# Altium schematic symbol library ICs.SchLib: 214 symbols (part 2 of 2)
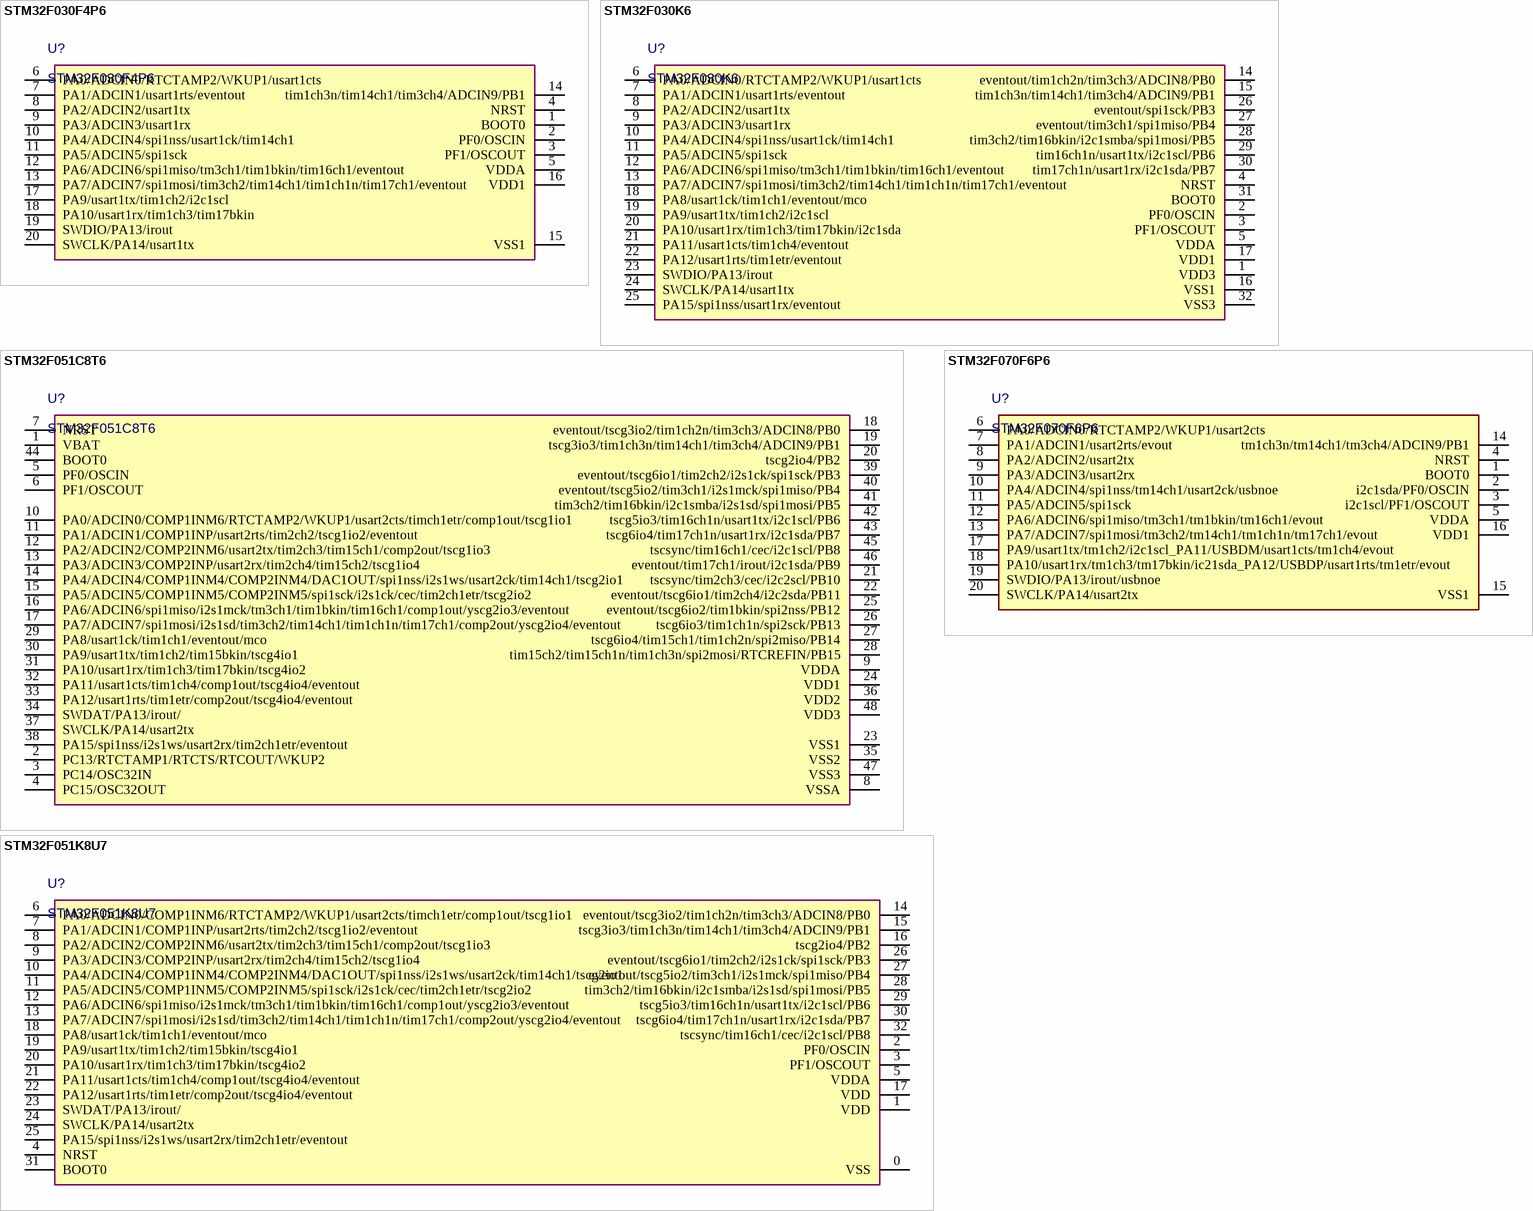
[diagram p17: symbols STM32F030F4P6 to STM32F070F6P6]

## STM32F070F6P6
designator U?
Value: STM32F070F6P6
pins: 1 BOOT0, 2 i2c1sda/PF0/OSCIN, 3 i2c1scl/PF1/OSCOUT, 4 NRST, 5 VDDA, 6 PA0/ADCIN0/RTCTAMP2/WKUP1/usart2cts, 7 PA1/ADCIN1/usart2rts/evout, 8 PA2/ADCIN2/usart2tx, 9 PA3/ADCIN3/usart2rx, 10 PA4/ADCIN4/spi1nss/tm14ch1/usart2ck/usbnoe, 11 PA5/ADCIN5/spi1sck, 12 PA6/ADCIN6/spi1miso/tm3ch1/tm1bkin/tm16ch1/evout, 13 PA7/ADCIN7/spi1mosi/tm3ch2/tm14ch1/tm1ch1n/tm17ch1/evout, 14 tm1ch3n/tm14ch1/tm3ch4/ADCIN9/PB1, 15 VSS1, 16 VDD1, 17 PA9/usart1tx/tm1ch2/i2c1scl_PA11/USBDM/usart1cts/tm1ch4/evout, 18 PA10/usart1rx/tm1ch3/tm17bkin/ic21sda_PA12/USBDP/usart1rts/tm1etr/evout, 19 SWDIO/PA13/irout/usbnoe, 20 SWCLK/PA14/usart2tx

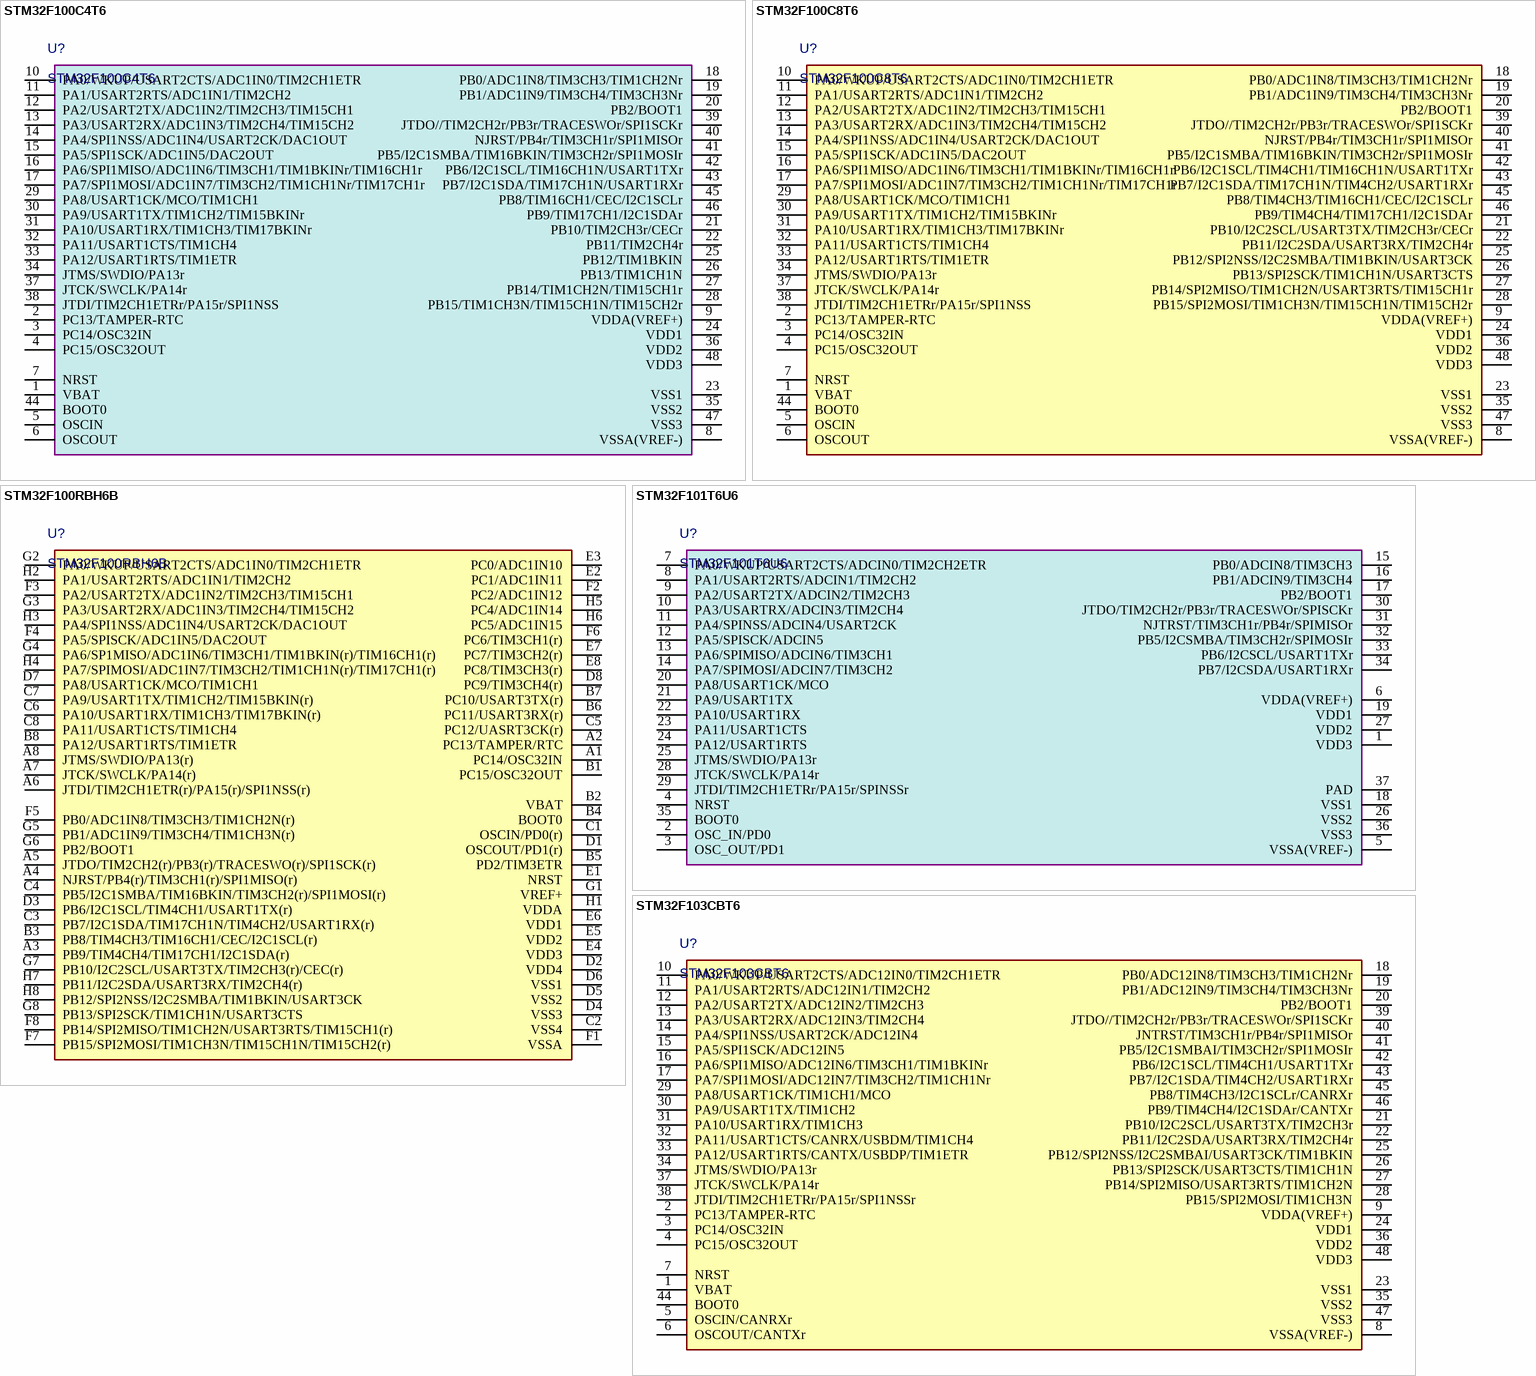
[diagram p10: symbols STM32F100C4T6 to STM32F103CBT6]

## STM32F100C4T6
designator U?
Value: STM32F100C4T6
pins: 1 VBAT, 2 PC13/TAMPER-RTC, 3 PC14/OSC32IN, 4 PC15/OSC32OUT, 5 OSCIN, 6 OSCOUT, 7 NRST, 8 VSSA(VREF-), 9 VDDA(VREF+), 10 PA0/WKUP/USART2CTS/ADC1IN0/TIM2CH1ETR, 11 PA1/USART2RTS/ADC1IN1/TIM2CH2, 12 PA2/USART2TX/ADC1IN2/TIM2CH3/TIM15CH1, 13 PA3/USART2RX/ADC1IN3/TIM2CH4/TIM15CH2, 14 PA4/SPI1NSS/ADC1IN4/USART2CK/DAC1OUT, 15 PA5/SPI1SCK/ADC1IN5/DAC2OUT, 16 PA6/SPI1MISO/ADC1IN6/TIM3CH1/TIM1BKINr/TIM16CH1r, 17 PA7/SPI1MOSI/ADC1IN7/TIM3CH2/TIM1CH1Nr/TIM17CH1r, 18 PB0/ADC1IN8/TIM3CH3/TIM1CH2Nr, 19 PB1/ADC1IN9/TIM3CH4/TIM3CH3Nr, 20 PB2/BOOT1, 21 PB10/TIM2CH3r/CECr, 22 PB11/TIM2CH4r, 23 VSS1, 24 VDD1, 25 PB12/TIM1BKIN, 26 PB13/TIM1CH1N, 27 PB14/TIM1CH2N/TIM15CH1r, 28 PB15/TIM1CH3N/TIM15CH1N/TIM15CH2r, 29 PA8/USART1CK/MCO/TIM1CH1, 30 PA9/USART1TX/TIM1CH2/TIM15BKINr, 31 PA10/USART1RX/TIM1CH3/TIM17BKINr, 32 PA11/USART1CTS/TIM1CH4, 33 PA12/USART1RTS/TIM1ETR, 34 JTMS/SWDIO/PA13r, 35 VSS2, 36 VDD2, 37 JTCK/SWCLK/PA14r, 38 JTDI/TIM2CH1ETRr/PA15r/SPI1NSS, 39 JTDO//TIM2CH2r/PB3r/TRACESWOr/SPI1SCKr, 40 NJRST/PB4r/TIM3CH1r/SPI1MISOr, 41 PB5/I2C1SMBA/TIM16BKIN/TIM3CH2r/SPI1MOSIr, 42 PB6/I2C1SCL/TIM16CH1N/USART1TXr, 43 PB7/I2C1SDA/TIM17CH1N/USART1RXr, 44 BOOT0, 45 PB8/TIM16CH1/CEC/I2C1SCLr, 46 PB9/TIM17CH1/I2C1SDAr, 47 VSS3, 48 VDD3

## STM32F100C8T6
designator U?
Value: STM32F100C8T6
pins: 1 VBAT, 2 PC13/TAMPER-RTC, 3 PC14/OSC32IN, 4 PC15/OSC32OUT, 5 OSCIN, 6 OSCOUT, 7 NRST, 8 VSSA(VREF-), 9 VDDA(VREF+), 10 PA0/WKUP/USART2CTS/ADC1IN0/TIM2CH1ETR, 11 PA1/USART2RTS/ADC1IN1/TIM2CH2, 12 PA2/USART2TX/ADC1IN2/TIM2CH3/TIM15CH1, 13 PA3/USART2RX/ADC1IN3/TIM2CH4/TIM15CH2, 14 PA4/SPI1NSS/ADC1IN4/USART2CK/DAC1OUT, 15 PA5/SPI1SCK/ADC1IN5/DAC2OUT, 16 PA6/SPI1MISO/ADC1IN6/TIM3CH1/TIM1BKINr/TIM16CH1r, 17 PA7/SPI1MOSI/ADC1IN7/TIM3CH2/TIM1CH1Nr/TIM17CH1r, 18 PB0/ADC1IN8/TIM3CH3/TIM1CH2Nr, 19 PB1/ADC1IN9/TIM3CH4/TIM3CH3Nr, 20 PB2/BOOT1, 21 PB10/I2C2SCL/USART3TX/TIM2CH3r/CECr, 22 PB11/I2C2SDA/USART3RX/TIM2CH4r, 23 VSS1, 24 VDD1, 25 PB12/SPI2NSS/I2C2SMBA/TIM1BKIN/USART3CK, 26 PB13/SPI2SCK/TIM1CH1N/USART3CTS, 27 PB14/SPI2MISO/TIM1CH2N/USART3RTS/TIM15CH1r, 28 PB15/SPI2MOSI/TIM1CH3N/TIM15CH1N/TIM15CH2r, 29 PA8/USART1CK/MCO/TIM1CH1, 30 PA9/USART1TX/TIM1CH2/TIM15BKINr, 31 PA10/USART1RX/TIM1CH3/TIM17BKINr, 32 PA11/USART1CTS/TIM1CH4, 33 PA12/USART1RTS/TIM1ETR, 34 JTMS/SWDIO/PA13r, 35 VSS2, 36 VDD2, 37 JTCK/SWCLK/PA14r, 38 JTDI/TIM2CH1ETRr/PA15r/SPI1NSS, 39 JTDO//TIM2CH2r/PB3r/TRACESWOr/SPI1SCKr, 40 NJRST/PB4r/TIM3CH1r/SPI1MISOr, 41 PB5/I2C1SMBA/TIM16BKIN/TIM3CH2r/SPI1MOSIr, 42 PB6/I2C1SCL/TIM4CH1/TIM16CH1N/USART1TXr, 43 PB7/I2C1SDA/TIM17CH1N/TIM4CH2/USART1RXr, 44 BOOT0, 45 PB8/TIM4CH3/TIM16CH1/CEC/I2C1SCLr, 46 PB9/TIM4CH4/TIM17CH1/I2C1SDAr, 47 VSS3, 48 VDD3

## STM32F100RBH6B
designator U?
Value: STM32F100RBH6B
pins: A1 PC14/OSC32IN, A2 PC13/TAMPER/RTC, A3 PB9/TIM4CH4/TIM17CH1/I2C1SDA(r), A4 NJRST/PB4(r)/TIM3CH1(r)/SPI1MISO(r), A5 JTDO/TIM2CH2(r)/PB3(r)/TRACESWO(r)/SPI1SCK(r), A6 JTDI/TIM2CH1ETR(r)/PA15(r)/SPI1NSS(r), A7 JTCK/SWCLK/PA14(r), A8 JTMS/SWDIO/PA13(r), B1 PC15/OSC32OUT, B2 VBAT, B3 PB8/TIM4CH3/TIM16CH1/CEC/I2C1SCL(r), B4 BOOT0, B5 PD2/TIM3ETR, B6 PC11/USART3RX(r), B7 PC10/USART3TX(r), B8 PA12/USART1RTS/TIM1ETR, C1 OSCIN/PD0(r), C2 VSS4, C3 PB7/I2C1SDA/TIM17CH1N/TIM4CH2/USART1RX(r), C4 PB5/I2C1SMBA/TIM16BKIN/TIM3CH2(r)/SPI1MOSI(r), C5 PC12/UASRT3CK(r), C6 PA10/USART1RX/TIM1CH3/TIM17BKIN(r), C7 PA9/USART1TX/TIM1CH2/TIM15BKIN(r), C8 PA11/USART1CTS/TIM1CH4, D1 OSCOUT/PD1(r), D2 VDD4, D3 PB6/I2C1SCL/TIM4CH1/USART1TX(r), D4 VSS3, D5 VSS2, D6 VSS1, D7 PA8/USART1CK/MCO/TIM1CH1, D8 PC9/TIM3CH4(r), E1 NRST, E2 PC1/ADC1IN11, E3 PC0/ADC1IN10, E4 VDD3, E5 VDD2, E6 VDD1, E7 PC7/TIM3CH2(r), E8 PC8/TIM3CH3(r), F1 VSSA, F2 PC2/ADC1IN12, F3 PA2/USART2TX/ADC1IN2/TIM2CH3/TIM15CH1, F4 PA5/SPISCK/ADC1IN5/DAC2OUT, F5 PB0/ADC1IN8/TIM3CH3/TIM1CH2N(r), F6 PC6/TIM3CH1(r), F7 PB15/SPI2MOSI/TIM1CH3N/TIM15CH1N/TIM15CH2(r), F8 PB14/SPI2MISO/TIM1CH2N/USART3RTS/TIM15CH1(r), G1 VREF+, G2 PA0/WKUP/USART2CTS/ADC1IN0/TIM2CH1ETR, G3 PA3/USART2RX/ADC1IN3/TIM2CH4/TIM15CH2, G4 PA6/SP1MISO/ADC1IN6/TIM3CH1/TIM1BKIN(r)/TIM16CH1(r), G5 PB1/ADC1IN9/TIM3CH4/TIM1CH3N(r), G6 PB2/BOOT1, G7 PB10/I2C2SCL/USART3TX/TIM2CH3(r)/CEC(r), G8 PB13/SPI2SCK/TIM1CH1N/USART3CTS, H1 VDDA, H2 PA1/USART2RTS/ADC1IN1/TIM2CH2, H3 PA4/SPI1NSS/ADC1IN4/USART2CK/DAC1OUT, H4 PA7/SPIMOSI/ADC1IN7/TIM3CH2/TIM1CH1N(r)/TIM17CH1(r), H5 PC4/ADC1IN14, H6 PC5/ADC1IN15, H7 PB11/I2C2SDA/USART3RX/TIM2CH4(r), H8 PB12/SPI2NSS/I2C2SMBA/TIM1BKIN/USART3CK

## STM32F101T6U6
designator U?
Value: STM32F101T6U6
pins: 1 VDD3, 2 OSC_IN/PD0, 3 OSC_OUT/PD1, 4 NRST, 5 VSSA(VREF-), 6 VDDA(VREF+), 7 PA0/WKUP/USART2CTS/ADCIN0/TIM2CH2ETR, 8 PA1/USART2RTS/ADCIN1/TIM2CH2, 9 PA2/USART2TX/ADCIN2/TIM2CH3, 10 PA3/USARTRX/ADCIN3/TIM2CH4, 11 PA4/SPINSS/ADCIN4/USART2CK, 12 PA5/SPISCK/ADCIN5, 13 PA6/SPIMISO/ADCIN6/TIM3CH1, 14 PA7/SPIMOSI/ADCIN7/TIM3CH2, 15 PB0/ADCIN8/TIM3CH3, 16 PB1/ADCIN9/TIM3CH4, 17 PB2/BOOT1, 18 VSS1, 19 VDD1, 20 PA8/USART1CK/MCO, 21 PA9/USART1TX, 22 PA10/USART1RX, 23 PA11/USART1CTS, 24 PA12/USART1RTS, 25 JTMS/SWDIO/PA13r, 26 VSS2, 27 VDD2, 28 JTCK/SWCLK/PA14r, 29 JTDI/TIM2CH1ETRr/PA15r/SPINSSr, 30 JTDO/TIM2CH2r/PB3r/TRACESWOr/SPISCKr, 31 NJTRST/TIM3CH1r/PB4r/SPIMISOr, 32 PB5/I2CSMBA/TIM3CH2r/SPIMOSIr, 33 PB6/I2CSCL/USART1TXr, 34 PB7/I2CSDA/USART1RXr, 35 BOOT0, 36 VSS3, 37 PAD

## STM32F103CBT6
designator U?
Value: STM32F103CBT6
pins: 1 VBAT, 2 PC13/TAMPER-RTC, 3 PC14/OSC32IN, 4 PC15/OSC32OUT, 5 OSCIN/CANRXr, 6 OSCOUT/CANTXr, 7 NRST, 8 VSSA(VREF-), 9 VDDA(VREF+), 10 PA0/WKUP/USART2CTS/ADC12IN0/TIM2CH1ETR, 11 PA1/USART2RTS/ADC12IN1/TIM2CH2, 12 PA2/USART2TX/ADC12IN2/TIM2CH3, 13 PA3/USART2RX/ADC12IN3/TIM2CH4, 14 PA4/SPI1NSS/USART2CK/ADC12IN4, 15 PA5/SPI1SCK/ADC12IN5, 16 PA6/SPI1MISO/ADC12IN6/TIM3CH1/TIM1BKINr, 17 PA7/SPI1MOSI/ADC12IN7/TIM3CH2/TIM1CH1Nr, 18 PB0/ADC12IN8/TIM3CH3/TIM1CH2Nr, 19 PB1/ADC12IN9/TIM3CH4/TIM3CH3Nr, 20 PB2/BOOT1, 21 PB10/I2C2SCL/USART3TX/TIM2CH3r, 22 PB11/I2C2SDA/USART3RX/TIM2CH4r, 23 VSS1, 24 VDD1, 25 PB12/SPI2NSS/I2C2SMBAI/USART3CK/TIM1BKIN, 26 PB13/SPI2SCK/USART3CTS/TIM1CH1N, 27 PB14/SPI2MISO/USART3RTS/TIM1CH2N, 28 PB15/SPI2MOSI/TIM1CH3N, 29 PA8/USART1CK/TIM1CH1/MCO, 30 PA9/USART1TX/TIM1CH2, 31 PA10/USART1RX/TIM1CH3, 32 PA11/USART1CTS/CANRX/USBDM/TIM1CH4, 33 PA12/USART1RTS/CANTX/USBDP/TIM1ETR, 34 JTMS/SWDIO/PA13r, 35 VSS2, 36 VDD2, 37 JTCK/SWCLK/PA14r, 38 JTDI/TIM2CH1ETRr/PA15r/SPI1NSSr, 39 JTDO//TIM2CH2r/PB3r/TRACESWOr/SPI1SCKr, 40 JNTRST/TIM3CH1r/PB4r/SPI1MISOr, 41 PB5/I2C1SMBAI/TIM3CH2r/SPI1MOSIr, 42 PB6/I2C1SCL/TIM4CH1/USART1TXr, 43 PB7/I2C1SDA/TIM4CH2/USART1RXr, 44 BOOT0, 45 PB8/TIM4CH3/I2C1SCLr/CANRXr, 46 PB9/TIM4CH4/I2C1SDAr/CANTXr, 47 VSS3, 48 VDD3

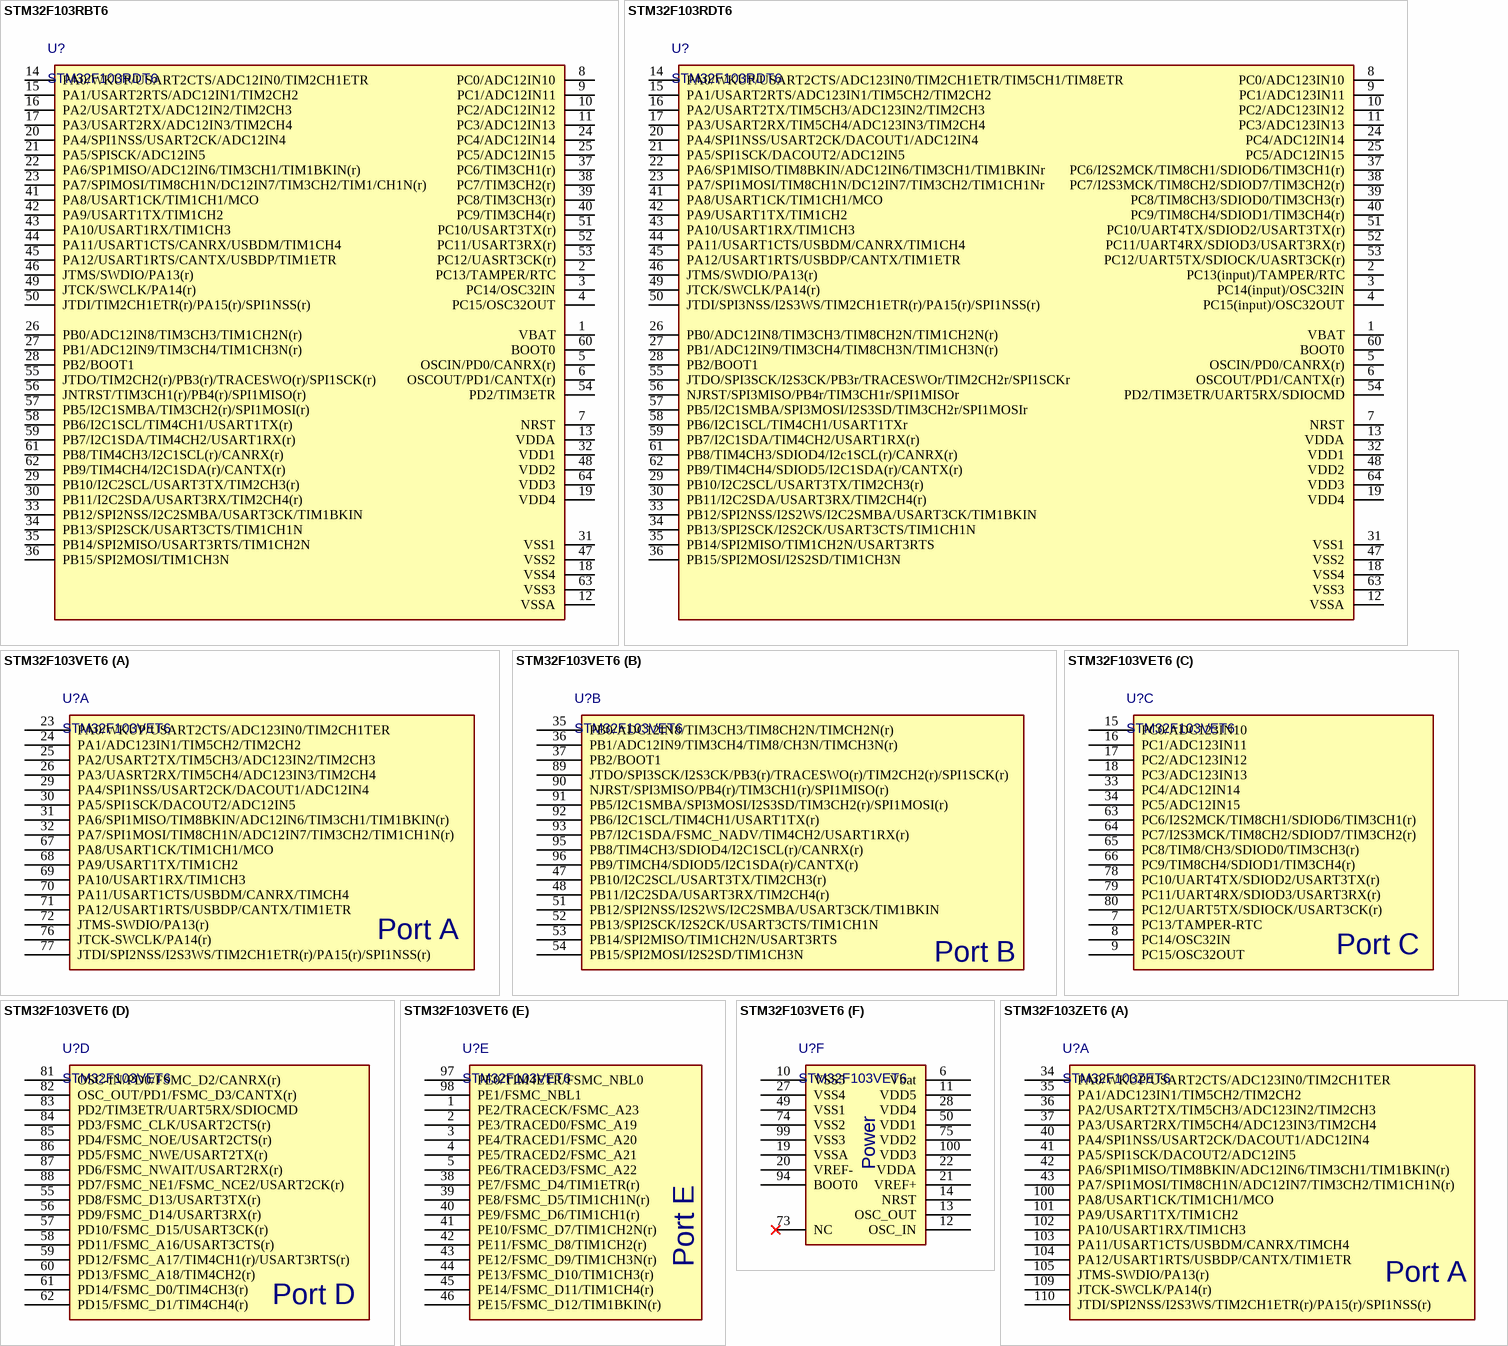
[diagram p11: symbols STM32F103RBT6 to STM32F103ZET6]

## STM32F103RBT6
designator U?, comment STM32F103RDT6
Value: STM32F103RDT6
pins: 1 VBAT, 2 PC13/TAMPER/RTC, 3 PC14/OSC32IN, 4 PC15/OSC32OUT, 5 OSCIN/PD0/CANRX(r), 6 OSCOUT/PD1/CANTX(r), 7 NRST, 8 PC0/ADC12IN10, 9 PC1/ADC12IN11, 10 PC2/ADC12IN12, 11 PC3/ADC12IN13, 12 VSSA, 13 VDDA, 14 PA0/WKUP/USART2CTS/ADC12IN0/TIM2CH1ETR, 15 PA1/USART2RTS/ADC12IN1/TIM2CH2, 16 PA2/USART2TX/ADC12IN2/TIM2CH3, 17 PA3/USART2RX/ADC12IN3/TIM2CH4, 18 VSS4, 19 VDD4, 20 PA4/SPI1NSS/USART2CK/ADC12IN4, 21 PA5/SPISCK/ADC12IN5, 22 PA6/SP1MISO/ADC12IN6/TIM3CH1/TIM1BKIN(r), 23 PA7/SPIMOSI/TIM8CH1N/DC12IN7/TIM3CH2/TIM1/CH1N(r), 24 PC4/ADC12IN14, 25 PC5/ADC12IN15, 26 PB0/ADC12IN8/TIM3CH3/TIM1CH2N(r), 27 PB1/ADC12IN9/TIM3CH4/TIM1CH3N(r), 28 PB2/BOOT1, 29 PB10/I2C2SCL/USART3TX/TIM2CH3(r), 30 PB11/I2C2SDA/USART3RX/TIM2CH4(r), 31 VSS1, 32 VDD1, 33 PB12/SPI2NSS/I2C2SMBA/USART3CK/TIM1BKIN, 34 PB13/SPI2SCK/USART3CTS/TIM1CH1N, 35 PB14/SPI2MISO/USART3RTS/TIM1CH2N, 36 PB15/SPI2MOSI/TIM1CH3N, 37 PC6/TIM3CH1(r), 38 PC7/TIM3CH2(r), 39 PC8/TIM3CH3(r), 40 PC9/TIM3CH4(r), 41 PA8/USART1CK/TIM1CH1/MCO, 42 PA9/USART1TX/TIM1CH2, 43 PA10/USART1RX/TIM1CH3, 44 PA11/USART1CTS/CANRX/USBDM/TIM1CH4, 45 PA12/USART1RTS/CANTX/USBDP/TIM1ETR, 46 JTMS/SWDIO/PA13(r), 47 VSS2, 48 VDD2, 49 JTCK/SWCLK/PA14(r), 50 JTDI/TIM2CH1ETR(r)/PA15(r)/SPI1NSS(r), 51 PC10/USART3TX(r), 52 PC11/USART3RX(r), 53 PC12/UASRT3CK(r), 54 PD2/TIM3ETR, 55 JTDO/TIM2CH2(r)/PB3(r)/TRACESWO(r)/SPI1SCK(r), 56 JNTRST/TIM3CH1(r)/PB4(r)/SPI1MISO(r), 57 PB5/I2C1SMBA/TIM3CH2(r)/SPI1MOSI(r), 58 PB6/I2C1SCL/TIM4CH1/USART1TX(r), 59 PB7/I2C1SDA/TIM4CH2/USART1RX(r), 60 BOOT0, 61 PB8/TIM4CH3/I2C1SCL(r)/CANRX(r), 62 PB9/TIM4CH4/I2C1SDA(r)/CANTX(r), 63 VSS3, 64 VDD3

## STM32F103RDT6
designator U?
Value: STM32F103RDT6
pins: 1 VBAT, 2 PC13(input)/TAMPER/RTC, 3 PC14(input)/OSC32IN, 4 PC15(input)/OSC32OUT, 5 OSCIN/PD0/CANRX(r), 6 OSCOUT/PD1/CANTX(r), 7 NRST, 8 PC0/ADC123IN10, 9 PC1/ADC123IN11, 10 PC2/ADC123IN12, 11 PC3/ADC123IN13, 12 VSSA, 13 VDDA, 14 PA0/WKUP/USART2CTS/ADC123IN0/TIM2CH1ETR/TIM5CH1/TIM8ETR, 15 PA1/USART2RTS/ADC123IN1/TIM5CH2/TIM2CH2, 16 PA2/USART2TX/TIM5CH3/ADC123IN2/TIM2CH3, 17 PA3/USART2RX/TIM5CH4/ADC123IN3/TIM2CH4, 18 VSS4, 19 VDD4, 20 PA4/SPI1NSS/USART2CK/DACOUT1/ADC12IN4, 21 PA5/SPI1SCK/DACOUT2/ADC12IN5, 22 PA6/SP1MISO/TIM8BKIN/ADC12IN6/TIM3CH1/TIM1BKINr, 23 PA7/SPI1MOSI/TIM8CH1N/DC12IN7/TIM3CH2/TIM1CH1Nr, 24 PC4/ADC12IN14, 25 PC5/ADC12IN15, 26 PB0/ADC12IN8/TIM3CH3/TIM8CH2N/TIM1CH2N(r), 27 PB1/ADC12IN9/TIM3CH4/TIM8CH3N/TIM1CH3N(r), 28 PB2/BOOT1, 29 PB10/I2C2SCL/USART3TX/TIM2CH3(r), 30 PB11/I2C2SDA/USART3RX/TIM2CH4(r), 31 VSS1, 32 VDD1, 33 PB12/SPI2NSS/I2S2WS/I2C2SMBA/USART3CK/TIM1BKIN, 34 PB13/SPI2SCK/I2S2CK/USART3CTS/TIM1CH1N, 35 PB14/SPI2MISO/TIM1CH2N/USART3RTS, 36 PB15/SPI2MOSI/I2S2SD/TIM1CH3N, 37 PC6/I2S2MCK/TIM8CH1/SDIOD6/TIM3CH1(r), 38 PC7/I2S3MCK/TIM8CH2/SDIOD7/TIM3CH2(r), 39 PC8/TIM8CH3/SDIOD0/TIM3CH3(r), 40 PC9/TIM8CH4/SDIOD1/TIM3CH4(r), 41 PA8/USART1CK/TIM1CH1/MCO, 42 PA9/USART1TX/TIM1CH2, 43 PA10/USART1RX/TIM1CH3, 44 PA11/USART1CTS/USBDM/CANRX/TIM1CH4, 45 PA12/USART1RTS/USBDP/CANTX/TIM1ETR, 46 JTMS/SWDIO/PA13(r), 47 VSS2, 48 VDD2, 49 JTCK/SWCLK/PA14(r), 50 JTDI/SPI3NSS/I2S3WS/TIM2CH1ETR(r)/PA15(r)/SPI1NSS(r), 51 PC10/UART4TX/SDIOD2/USART3TX(r), 52 PC11/UART4RX/SDIOD3/USART3RX(r), 53 PC12/UART5TX/SDIOCK/UASRT3CK(r), 54 PD2/TIM3ETR/UART5RX/SDIOCMD, 55 JTDO/SPI3SCK/I2S3CK/PB3r/TRACESWOr/TIM2CH2r/SPI1SCKr, 56 NJRST/SPI3MISO/PB4r/TIM3CH1r/SPI1MISOr, 57 PB5/I2C1SMBA/SPI3MOSI/I2S3SD/TIM3CH2r/SPI1MOSIr, 58 PB6/I2C1SCL/TIM4CH1/USART1TXr, 59 PB7/I2C1SDA/TIM4CH2/USART1RX(r), 60 BOOT0, 61 PB8/TIM4CH3/SDIOD4/I2c1SCL(r)/CANRX(r), 62 PB9/TIM4CH4/SDIOD5/I2C1SDA(r)/CANTX(r), 63 VSS3, 64 VDD3

## STM32F103VET6
designator U?
Value: STM32F103VET6
part A pins: 23 PA0/WKUP/USART2CTS/ADC123IN0/TIM2CH1TER, 24 PA1/ADC123IN1/TIM5CH2/TIM2CH2, 25 PA2/USART2TX/TIM5CH3/ADC123IN2/TIM2CH3, 26 PA3/UASRT2RX/TIM5CH4/ADC123IN3/TIM2CH4, 29 PA4/SPI1NSS/USART2CK/DACOUT1/ADC12IN4, 30 PA5/SPI1SCK/DACOUT2/ADC12IN5, 31 PA6/SPI1MISO/TIM8BKIN/ADC12IN6/TIM3CH1/TIM1BKIN(r), 32 PA7/SPI1MOSI/TIM8CH1N/ADC12IN7/TIM3CH2/TIM1CH1N(r), 67 PA8/USART1CK/TIM1CH1/MCO, 68 PA9/USART1TX/TIM1CH2, 69 PA10/USART1RX/TIM1CH3, 70 PA11/USART1CTS/USBDM/CANRX/TIMCH4, 71 PA12/USART1RTS/USBDP/CANTX/TIM1ETR, 72 JTMS-SWDIO/PA13(r), 76 JTCK-SWCLK/PA14(r), 77 JTDI/SPI2NSS/I2S3WS/TIM2CH1ETR(r)/PA15(r)/SPI1NSS(r)
part B pins: 35 PB0/ADC12IN8/TIM3CH3/TIM8CH2N/TIMCH2N(r), 36 PB1/ADC12IN9/TIM3CH4/TIM8/CH3N/TIMCH3N(r), 37 PB2/BOOT1, 47 PB10/I2C2SCL/USART3TX/TIM2CH3(r), 48 PB11/I2C2SDA/USART3RX/TIM2CH4(r), 51 PB12/SPI2NSS/I2S2WS/I2C2SMBA/USART3CK/TIM1BKIN, 52 PB13/SPI2SCK/I2S2CK/USART3CTS/TIM1CH1N, 53 PB14/SPI2MISO/TIM1CH2N/USART3RTS, 54 PB15/SPI2MOSI/I2S2SD/TIM1CH3N, 89 JTDO/SPI3SCK/I2S3CK/PB3(r)/TRACESWO(r)/TIM2CH2(r)/SPI1SCK(r), 90 NJRST/SPI3MISO/PB4(r)/TIM3CH1(r)/SPI1MISO(r), 91 PB5/I2C1SMBA/SPI3MOSI/I2S3SD/TIM3CH2(r)/SPI1MOSI(r), 92 PB6/I2C1SCL/TIM4CH1/USART1TX(r), 93 PB7/I2C1SDA/FSMC_NADV/TIM4CH2/USART1RX(r), 95 PB8/TIM4CH3/SDIOD4/I2C1SCL(r)/CANRX(r), 96 PB9/TIMCH4/SDIOD5/I2C1SDA(r)/CANTX(r)
part C pins: 7 PC13/TAMPER-RTC, 8 PC14/OSC32IN, 9 PC15/OSC32OUT, 15 PC0/ADC123IN10, 16 PC1/ADC123IN11, 17 PC2/ADC123IN12, 18 PC3/ADC123IN13, 33 PC4/ADC12IN14, 34 PC5/ADC12IN15, 63 PC6/I2S2MCK/TIM8CH1/SDIOD6/TIM3CH1(r), 64 PC7/I2S3MCK/TIM8CH2/SDIOD7/TIM3CH2(r), 65 PC8/TIM8/CH3/SDIOD0/TIM3CH3(r), 66 PC9/TIM8CH4/SDIOD1/TIM3CH4(r), 78 PC10/UART4TX/SDIOD2/USART3TX(r), 79 PC11/UART4RX/SDIOD3/USART3RX(r), 80 PC12/UART5TX/SDIOCK/USART3CK(r)
part D pins: 55 PD8/FSMC_D13/USART3TX(r), 56 PD9/FSMC_D14/USART3RX(r), 57 PD10/FSMC_D15/USART3CK(r), 58 PD11/FSMC_A16/USART3CTS(r), 59 PD12/FSMC_A17/TIM4CH1(r)/USART3RTS(r), 60 PD13/FSMC_A18/TIM4CH2(r), 61 PD14/FSMC_D0/TIM4CH3(r), 62 PD15/FSMC_D1/TIM4CH4(r), 81 OSC-IN/PD0/FSMC_D2/CANRX(r), 82 OSC_OUT/PD1/FSMC_D3/CANTX(r), 83 PD2/TIM3ETR/UART5RX/SDIOCMD, 84 PD3/FSMC_CLK/USART2CTS(r), 85 PD4/FSMC_NOE/USART2CTS(r), 86 PD5/FSMC_NWE/USART2TX(r), 87 PD6/FSMC_NWAIT/USART2RX(r), 88 PD7/FSMC_NE1/FSMC_NCE2/USART2CK(r)
part E pins: 1 PE2/TRACECK/FSMC_A23, 2 PE3/TRACED0/FSMC_A19, 3 PE4/TRACED1/FSMC_A20, 4 PE5/TRACED2/FSMC_A21, 5 PE6/TRACED3/FSMC_A22, 38 PE7/FSMC_D4/TIM1ETR(r), 39 PE8/FSMC_D5/TIM1CH1N(r), 40 PE9/FSMC_D6/TIM1CH1(r), 41 PE10/FSMC_D7/TIM1CH2N(r), 42 PE11/FSMC_D8/TIM1CH2(r), 43 PE12/FSMC_D9/TIM1CH3N(r), 44 PE13/FSMC_D10/TIM1CH3(r), 45 PE14/FSMC_D11/TIM1CH4(r), 46 PE15/FSMC_D12/TIM1BKIN(r), 97 PE0/TIM4ETR/FSMC_NBL0, 98 PE1/FSMC_NBL1
part F pins: 6 Vbat, 10 VSS5, 11 VDD5, 12 OSC_IN, 13 OSC_OUT, 14 NRST, 19 VSSA, 20 VREF-, 21 VREF+, 22 VDDA, 27 VSS4, 28 VDD4, 49 VSS1, 50 VDD1, 73 NC, 74 VSS2, 75 VDD2, 94 BOOT0, 99 VSS3, 100 VDD3
part A text: Port A
part B text: Port B
part C text: Port C
part D text: Port D
part E text: Port E
part F text: Power

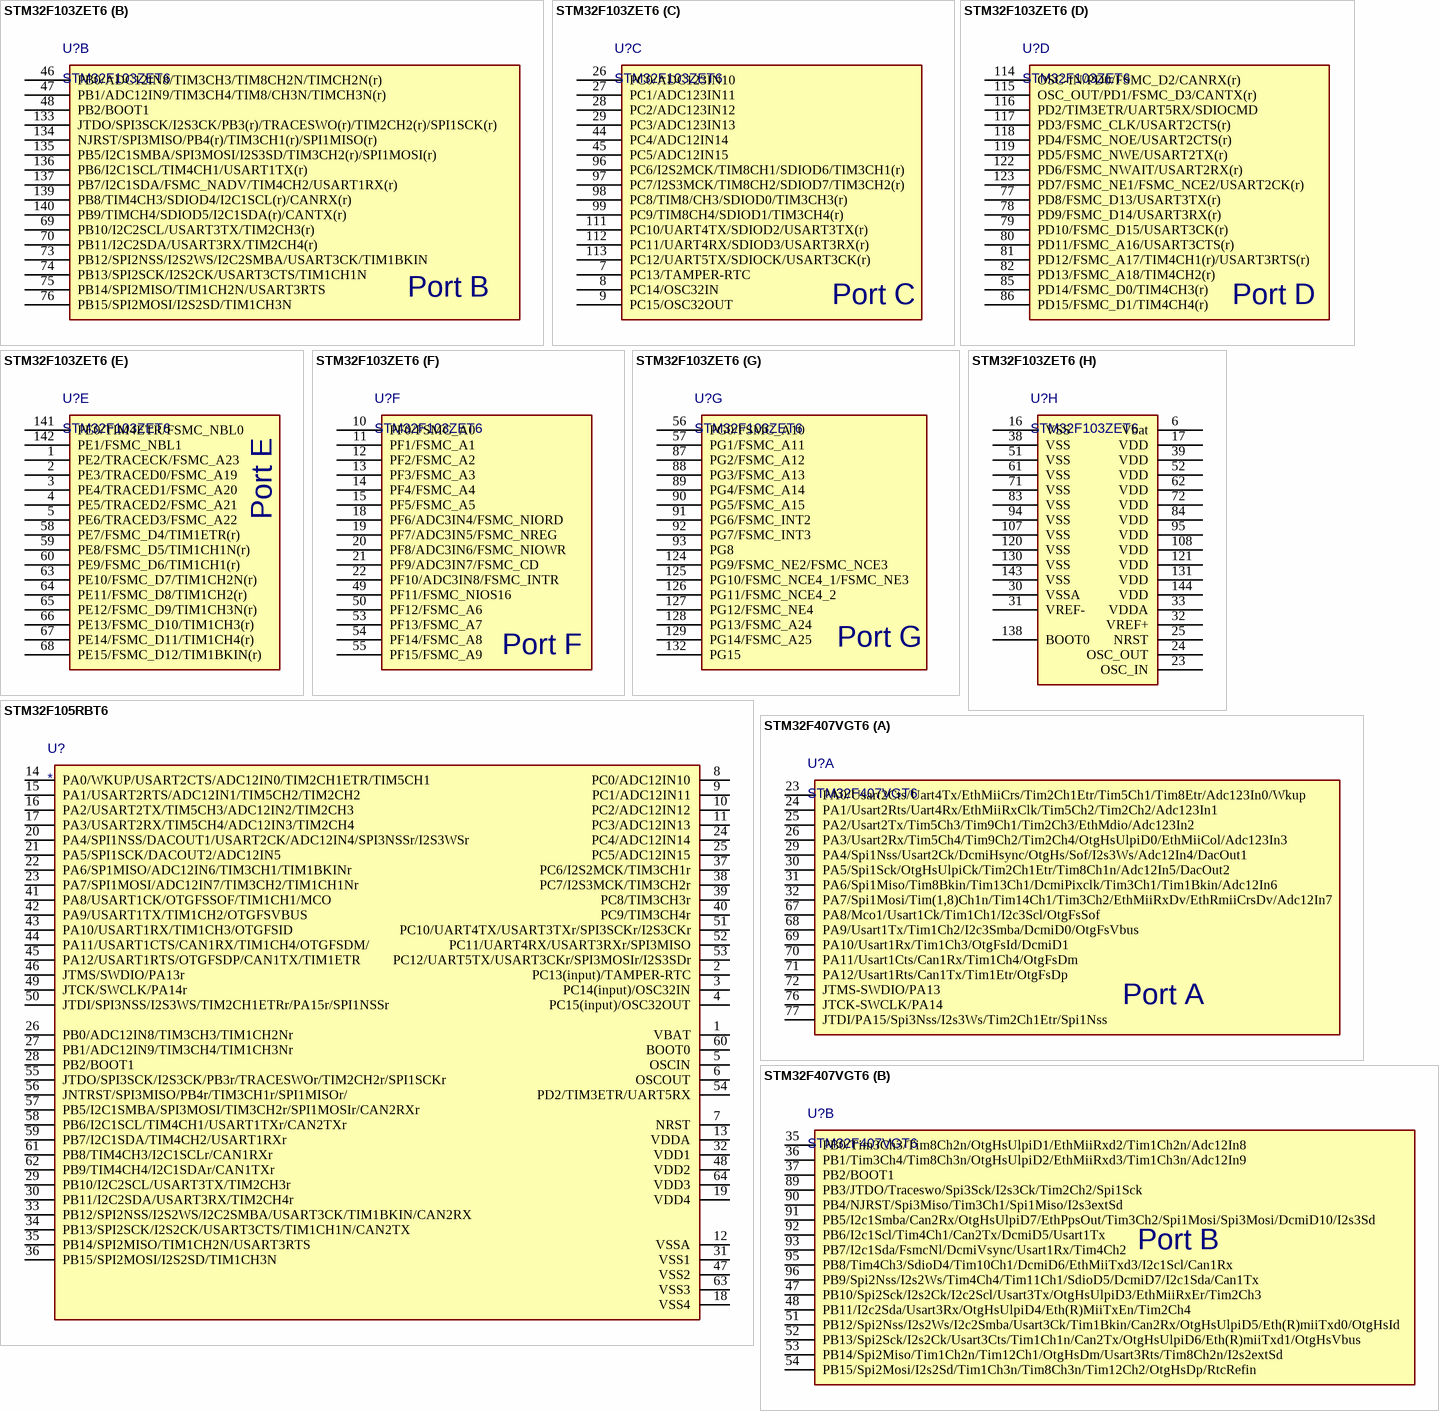
[diagram p12: symbols STM32F103ZET6 to STM32F407VGT6]

## STM32F103ZET6
designator U?
Value: STM32F103ZET6
part A pins: 34 PA0/WKUP/USART2CTS/ADC123IN0/TIM2CH1TER, 35 PA1/ADC123IN1/TIM5CH2/TIM2CH2, 36 PA2/USART2TX/TIM5CH3/ADC123IN2/TIM2CH3, 37 PA3/USART2RX/TIM5CH4/ADC123IN3/TIM2CH4, 40 PA4/SPI1NSS/USART2CK/DACOUT1/ADC12IN4, 41 PA5/SPI1SCK/DACOUT2/ADC12IN5, 42 PA6/SPI1MISO/TIM8BKIN/ADC12IN6/TIM3CH1/TIM1BKIN(r), 43 PA7/SPI1MOSI/TIM8CH1N/ADC12IN7/TIM3CH2/TIM1CH1N(r), 100 PA8/USART1CK/TIM1CH1/MCO, 101 PA9/USART1TX/TIM1CH2, 102 PA10/USART1RX/TIM1CH3, 103 PA11/USART1CTS/USBDM/CANRX/TIMCH4, 104 PA12/USART1RTS/USBDP/CANTX/TIM1ETR, 105 JTMS-SWDIO/PA13(r), 109 JTCK-SWCLK/PA14(r), 110 JTDI/SPI2NSS/I2S3WS/TIM2CH1ETR(r)/PA15(r)/SPI1NSS(r)
part B pins: 46 PB0/ADC12IN8/TIM3CH3/TIM8CH2N/TIMCH2N(r), 47 PB1/ADC12IN9/TIM3CH4/TIM8/CH3N/TIMCH3N(r), 48 PB2/BOOT1, 69 PB10/I2C2SCL/USART3TX/TIM2CH3(r), 70 PB11/I2C2SDA/USART3RX/TIM2CH4(r), 73 PB12/SPI2NSS/I2S2WS/I2C2SMBA/USART3CK/TIM1BKIN, 74 PB13/SPI2SCK/I2S2CK/USART3CTS/TIM1CH1N, 75 PB14/SPI2MISO/TIM1CH2N/USART3RTS, 76 PB15/SPI2MOSI/I2S2SD/TIM1CH3N, 133 JTDO/SPI3SCK/I2S3CK/PB3(r)/TRACESWO(r)/TIM2CH2(r)/SPI1SCK(r), 134 NJRST/SPI3MISO/PB4(r)/TIM3CH1(r)/SPI1MISO(r), 135 PB5/I2C1SMBA/SPI3MOSI/I2S3SD/TIM3CH2(r)/SPI1MOSI(r), 136 PB6/I2C1SCL/TIM4CH1/USART1TX(r), 137 PB7/I2C1SDA/FSMC_NADV/TIM4CH2/USART1RX(r), 139 PB8/TIM4CH3/SDIOD4/I2C1SCL(r)/CANRX(r), 140 PB9/TIMCH4/SDIOD5/I2C1SDA(r)/CANTX(r)
part C pins: 7 PC13/TAMPER-RTC, 8 PC14/OSC32IN, 9 PC15/OSC32OUT, 26 PC0/ADC123IN10, 27 PC1/ADC123IN11, 28 PC2/ADC123IN12, 29 PC3/ADC123IN13, 44 PC4/ADC12IN14, 45 PC5/ADC12IN15, 96 PC6/I2S2MCK/TIM8CH1/SDIOD6/TIM3CH1(r), 97 PC7/I2S3MCK/TIM8CH2/SDIOD7/TIM3CH2(r), 98 PC8/TIM8/CH3/SDIOD0/TIM3CH3(r), 99 PC9/TIM8CH4/SDIOD1/TIM3CH4(r), 111 PC10/UART4TX/SDIOD2/USART3TX(r), 112 PC11/UART4RX/SDIOD3/USART3RX(r), 113 PC12/UART5TX/SDIOCK/USART3CK(r)
part D pins: 77 PD8/FSMC_D13/USART3TX(r), 78 PD9/FSMC_D14/USART3RX(r), 79 PD10/FSMC_D15/USART3CK(r), 80 PD11/FSMC_A16/USART3CTS(r), 81 PD12/FSMC_A17/TIM4CH1(r)/USART3RTS(r), 82 PD13/FSMC_A18/TIM4CH2(r), 85 PD14/FSMC_D0/TIM4CH3(r), 86 PD15/FSMC_D1/TIM4CH4(r), 114 OSC-IN/PD0/FSMC_D2/CANRX(r), 115 OSC_OUT/PD1/FSMC_D3/CANTX(r), 116 PD2/TIM3ETR/UART5RX/SDIOCMD, 117 PD3/FSMC_CLK/USART2CTS(r), 118 PD4/FSMC_NOE/USART2CTS(r), 119 PD5/FSMC_NWE/USART2TX(r), 122 PD6/FSMC_NWAIT/USART2RX(r), 123 PD7/FSMC_NE1/FSMC_NCE2/USART2CK(r)
part E pins: 1 PE2/TRACECK/FSMC_A23, 2 PE3/TRACED0/FSMC_A19, 3 PE4/TRACED1/FSMC_A20, 4 PE5/TRACED2/FSMC_A21, 5 PE6/TRACED3/FSMC_A22, 58 PE7/FSMC_D4/TIM1ETR(r), 59 PE8/FSMC_D5/TIM1CH1N(r), 60 PE9/FSMC_D6/TIM1CH1(r), 63 PE10/FSMC_D7/TIM1CH2N(r), 64 PE11/FSMC_D8/TIM1CH2(r), 65 PE12/FSMC_D9/TIM1CH3N(r), 66 PE13/FSMC_D10/TIM1CH3(r), 67 PE14/FSMC_D11/TIM1CH4(r), 68 PE15/FSMC_D12/TIM1BKIN(r), 141 PE0/TIM4ETR/FSMC_NBL0, 142 PE1/FSMC_NBL1
part F pins: 10 PF0/FSMC_A0, 11 PF1/FSMC_A1, 12 PF2/FSMC_A2, 13 PF3/FSMC_A3, 14 PF4/FSMC_A4, 15 PF5/FSMC_A5, 18 PF6/ADC3IN4/FSMC_NIORD, 19 PF7/ADC3IN5/FSMC_NREG, 20 PF8/ADC3IN6/FSMC_NIOWR, 21 PF9/ADC3IN7/FSMC_CD, 22 PF10/ADC3IN8/FSMC_INTR, 49 PF11/FSMC_NIOS16, 50 PF12/FSMC_A6, 53 PF13/FSMC_A7, 54 PF14/FSMC_A8, 55 PF15/FSMC_A9
part G pins: 56 PG0/FSMC_A10, 57 PG1/FSMC_A11, 87 PG2/FSMC_A12, 88 PG3/FSMC_A13, 89 PG4/FSMC_A14, 90 PG5/FSMC_A15, 91 PG6/FSMC_INT2, 92 PG7/FSMC_INT3, 93 PG8, 124 PG9/FSMC_NE2/FSMC_NCE3, 125 PG10/FSMC_NCE4_1/FSMC_NE3, 126 PG11/FSMC_NCE4_2, 127 PG12/FSMC_NE4, 128 PG13/FSMC_A24, 129 PG14/FSMC_A25, 132 PG15
part H pins: 6 Vbat, 16 VSS, 17 VDD, 23 OSC_IN, 24 OSC_OUT, 25 NRST, 30 VSSA, 31 VREF-, 32 VREF+, 33 VDDA, 38 VSS, 39 VDD, 51 VSS, 52 VDD, 61 VSS, 62 VDD, 71 VSS, 72 VDD, 83 VSS, 84 VDD, 94 VSS, 95 VDD, 107 VSS, 108 VDD, 120 VSS, 121 VDD, 130 VSS, 131 VDD, 138 BOOT0, 143 VSS, 144 VDD
part A text: Port A
part B text: Port B
part C text: Port C
part D text: Port D
part E text: Port E
part F text: Port F
part G text: Port G

## STM32F105RBT6
designator U?
Value: *
pins: 1 VBAT, 2 PC13(input)/TAMPER-RTC, 3 PC14(input)/OSC32IN, 4 PC15(input)/OSC32OUT, 5 OSCIN, 6 OSCOUT, 7 NRST, 8 PC0/ADC12IN10, 9 PC1/ADC12IN11, 10 PC2/ADC12IN12, 11 PC3/ADC12IN13, 12 VSSA, 13 VDDA, 14 PA0/WKUP/USART2CTS/ADC12IN0/TIM2CH1ETR/TIM5CH1, 15 PA1/USART2RTS/ADC12IN1/TIM5CH2/TIM2CH2, 16 PA2/USART2TX/TIM5CH3/ADC12IN2/TIM2CH3, 17 PA3/USART2RX/TIM5CH4/ADC12IN3/TIM2CH4, 18 VSS4, 19 VDD4, 20 PA4/SPI1NSS/DACOUT1/USART2CK/ADC12IN4/SPI3NSSr/I2S3WSr, 21 PA5/SPI1SCK/DACOUT2/ADC12IN5, 22 PA6/SP1MISO/ADC12IN6/TIM3CH1/TIM1BKINr, 23 PA7/SPI1MOSI/ADC12IN7/TIM3CH2/TIM1CH1Nr, 24 PC4/ADC12IN14, 25 PC5/ADC12IN15, 26 PB0/ADC12IN8/TIM3CH3/TIM1CH2Nr, 27 PB1/ADC12IN9/TIM3CH4/TIM1CH3Nr, 28 PB2/BOOT1, 29 PB10/I2C2SCL/USART3TX/TIM2CH3r, 30 PB11/I2C2SDA/USART3RX/TIM2CH4r, 31 VSS1, 32 VDD1, 33 PB12/SPI2NSS/I2S2WS/I2C2SMBA/USART3CK/TIM1BKIN/CAN2RX, 34 PB13/SPI2SCK/I2S2CK/USART3CTS/TIM1CH1N/CAN2TX, 35 PB14/SPI2MISO/TIM1CH2N/USART3RTS, 36 PB15/SPI2MOSI/I2S2SD/TIM1CH3N, 37 PC6/I2S2MCK/TIM3CH1r, 38 PC7/I2S3MCK/TIM3CH2r, 39 PC8/TIM3CH3r, 40 PC9/TIM3CH4r, 41 PA8/USART1CK/OTGFSSOF/TIM1CH1/MCO, 42 PA9/USART1TX/TIM1CH2/OTGFSVBUS, 43 PA10/USART1RX/TIM1CH3/OTGFSID, 44 PA11/USART1CTS/CAN1RX/TIM1CH4/OTGFSDM/, 45 PA12/USART1RTS/OTGFSDP/CAN1TX/TIM1ETR, 46 JTMS/SWDIO/PA13r, 47 VSS2, 48 VDD2, 49 JTCK/SWCLK/PA14r, 50 JTDI/SPI3NSS/I2S3WS/TIM2CH1ETRr/PA15r/SPI1NSSr, 51 PC10/UART4TX/USART3TXr/SPI3SCKr/I2S3CKr, 52 PC11/UART4RX/USART3RXr/SPI3MISO, 53 PC12/UART5TX/USART3CKr/SPI3MOSIr/I2S3SDr, 54 PD2/TIM3ETR/UART5RX, 55 JTDO/SPI3SCK/I2S3CK/PB3r/TRACESWOr/TIM2CH2r/SPI1SCKr, 56 JNTRST/SPI3MISO/PB4r/TIM3CH1r/SPI1MISOr/, 57 PB5/I2C1SMBA/SPI3MOSI/TIM3CH2r/SPI1MOSIr/CAN2RXr, 58 PB6/I2C1SCL/TIM4CH1/USART1TXr/CAN2TXr, 59 PB7/I2C1SDA/TIM4CH2/USART1RXr, 60 BOOT0, 61 PB8/TIM4CH3/I2C1SCLr/CAN1RXr, 62 PB9/TIM4CH4/I2C1SDAr/CAN1TXr, 63 VSS3, 64 VDD3

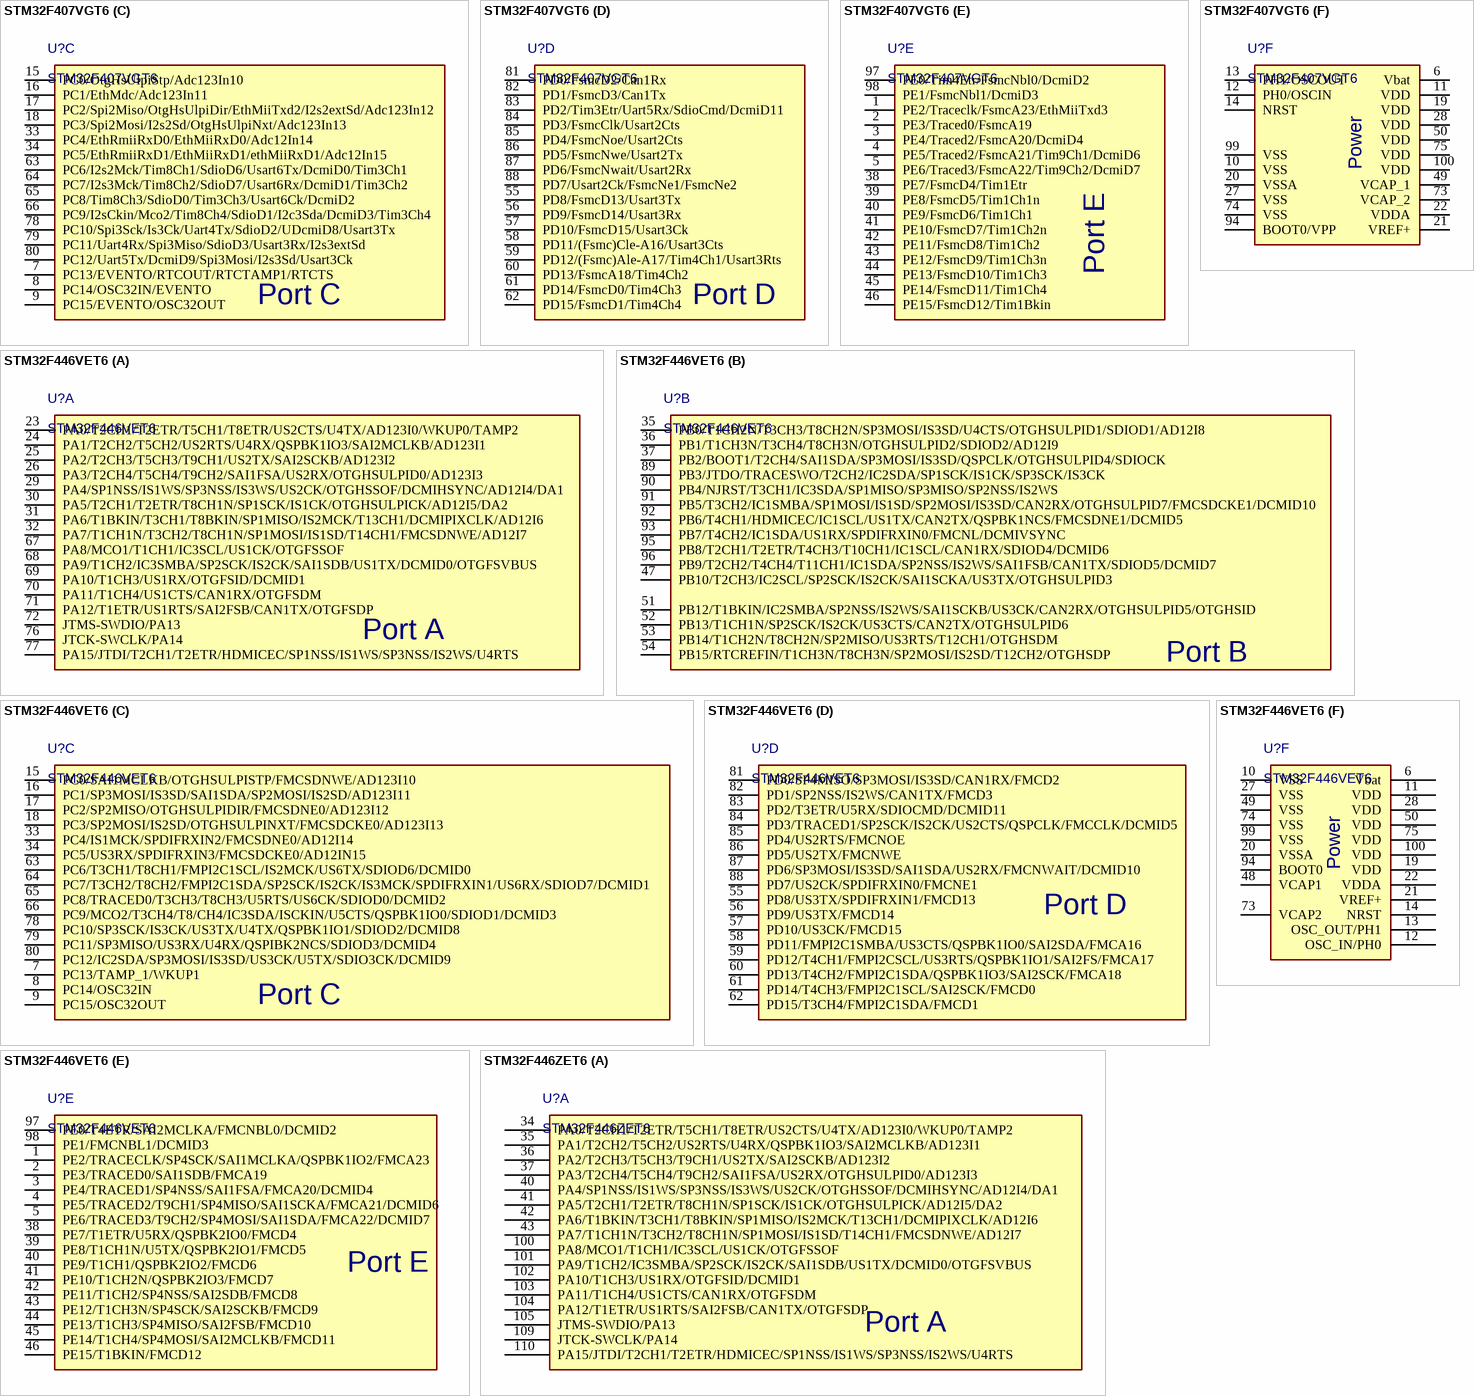
[diagram p13: symbols STM32F407VGT6 to STM32F446ZET6]

## STM32F407VGT6
designator U?
Value: STM32F407VGT6
part A pins: 23 PA0/Usart2Cts/Uart4Tx/EthMiiCrs/Tim2Ch1Etr/Tim5Ch1/Tim8Etr/Adc123In0/Wkup, 24 PA1/Usart2Rts/Uart4Rx/EthMiiRxClk/Tim5Ch2/Tim2Ch2/Adc123In1, 25 PA2/Usart2Tx/Tim5Ch3/Tim9Ch1/Tim2Ch3/EthMdio/Adc123In2, 26 PA3/Usart2Rx/Tim5Ch4/Tim9Ch2/Tim2Ch4/OtgHsUlpiD0/EthMiiCol/Adc123In3, 29 PA4/Spi1Nss/Usart2Ck/DcmiHsync/OtgHs/Sof/I2s3Ws/Adc12In4/DacOut1, 30 PA5/Spi1Sck/OtgHsUlpiCk/Tim2Ch1Etr/Tim8Ch1n/Adc12In5/DacOut2, 31 PA6/Spi1Miso/Tim8Bkin/Tim13Ch1/DcmiPixclk/Tim3Ch1/Tim1Bkin/Adc12In6, 32 PA7/Spi1Mosi/Tim(1,8)Ch1n/Tim14Ch1/Tim3Ch2/EthMiiRxDv/EthRmiiCrsDv/Adc12In7, 67 PA8/Mco1/Usart1Ck/Tim1Ch1/I2c3Scl/OtgFsSof, 68 PA9/Usart1Tx/Tim1Ch2/I2c3Smba/DcmiD0/OtgFsVbus, 69 PA10/Usart1Rx/Tim1Ch3/OtgFsId/DcmiD1, 70 PA11/Usart1Cts/Can1Rx/Tim1Ch4/OtgFsDm, 71 PA12/Usart1Rts/Can1Tx/Tim1Etr/OtgFsDp, 72 JTMS-SWDIO/PA13, 76 JTCK-SWCLK/PA14, 77 JTDI/PA15/Spi3Nss/I2s3Ws/Tim2Ch1Etr/Spi1Nss
part B pins: 35 PB0/Tim3Ch3/Tim8Ch2n/OtgHsUlpiD1/EthMiiRxd2/Tim1Ch2n/Adc12In8, 36 PB1/Tim3Ch4/Tim8Ch3n/OtgHsUlpiD2/EthMiiRxd3/Tim1Ch3n/Adc12In9, 37 PB2/BOOT1, 47 PB10/Spi2Sck/I2s2Ck/I2c2Scl/Usart3Tx/OtgHsUlpiD3/EthMiiRxEr/Tim2Ch3, 48 PB11/I2c2Sda/Usart3Rx/OtgHsUlpiD4/Eth(R)MiiTxEn/Tim2Ch4, 51 PB12/Spi2Nss/I2s2Ws/I2c2Smba/Usart3Ck/Tim1Bkin/Can2Rx/OtgHsUlpiD5/Eth(R)miiTxd0/OtgHsId, 52 PB13/Spi2Sck/I2s2Ck/Usart3Cts/Tim1Ch1n/Can2Tx/OtgHsUlpiD6/Eth(R)miiTxd1/OtgHsVbus, 53 PB14/Spi2Miso/Tim1Ch2n/Tim12Ch1/OtgHsDm/Usart3Rts/Tim8Ch2n/I2s2extSd, 54 PB15/Spi2Mosi/I2s2Sd/Tim1Ch3n/Tim8Ch3n/Tim12Ch2/OtgHsDp/RtcRefin, 89 PB3/JTDO/Traceswo/Spi3Sck/I2s3Ck/Tim2Ch2/Spi1Sck, 90 PB4/NJRST/Spi3Miso/Tim3Ch1/Spi1Miso/I2s3extSd, 91 PB5/I2c1Smba/Can2Rx/OtgHsUlpiD7/EthPpsOut/Tim3Ch2/Spi1Mosi/Spi3Mosi/DcmiD10/I2s3Sd, 92 PB6/I2c1Scl/Tim4Ch1/Can2Tx/DcmiD5/Usart1Tx, 93 PB7/I2c1Sda/FsmcNl/DcmiVsync/Usart1Rx/Tim4Ch2, 95 PB8/Tim4Ch3/SdioD4/Tim10Ch1/DcmiD6/EthMiiTxd3/I2c1Scl/Can1Rx, 96 PB9/Spi2Nss/I2s2Ws/Tim4Ch4/Tim11Ch1/SdioD5/DcmiD7/I2c1Sda/Can1Tx
part C pins: 7 PC13/EVENTO/RTCOUT/RTCTAMP1/RTCTS, 8 PC14/OSC32IN/EVENTO, 9 PC15/EVENTO/OSC32OUT, 15 PC0/OtgHsUlpiStp/Adc123In10, 16 PC1/EthMdc/Adc123In11, 17 PC2/Spi2Miso/OtgHsUlpiDir/EthMiiTxd2/I2s2extSd/Adc123In12, 18 PC3/Spi2Mosi/I2s2Sd/OtgHsUlpiNxt/Adc123In13, 33 PC4/EthRmiiRxD0/EthMiiRxD0/Adc12In14, 34 PC5/EthRmiiRxD1/EthMiiRxD1/ethMiiRxD1/Adc12In15, 63 PC6/I2s2Mck/Tim8Ch1/SdioD6/Usart6Tx/DcmiD0/Tim3Ch1, 64 PC7/I2s3Mck/Tim8Ch2/SdioD7/Usart6Rx/DcmiD1/Tim3Ch2, 65 PC8/Tim8Ch3/SdioD0/Tim3Ch3/Usart6Ck/DcmiD2, 66 PC9/I2sCkin/Mco2/Tim8Ch4/SdioD1/I2c3Sda/DcmiD3/Tim3Ch4, 78 PC10/Spi3Sck/Is3Ck/Uart4Tx/SdioD2/UDcmiD8/Usart3Tx, 79 PC11/Uart4Rx/Spi3Miso/SdioD3/Usart3Rx/I2s3extSd, 80 PC12/Uart5Tx/DcmiD9/Spi3Mosi/I2s3Sd/Usart3Ck
part D pins: 55 PD8/FsmcD13/Usart3Tx, 56 PD9/FsmcD14/Usart3Rx, 57 PD10/FsmcD15/Usart3Ck, 58 PD11/(Fsmc)Cle-A16/Usart3Cts, 59 PD12/(Fsmc)Ale-A17/Tim4Ch1/Usart3Rts, 60 PD13/FsmcA18/Tim4Ch2, 61 PD14/FsmcD0/Tim4Ch3, 62 PD15/FsmcD1/Tim4Ch4, 81 PD0/FsmcD2/Can1Rx, 82 PD1/FsmcD3/Can1Tx, 83 PD2/Tim3Etr/Uart5Rx/SdioCmd/DcmiD11, 84 PD3/FsmcClk/Usart2Cts, 85 PD4/FsmcNoe/Usart2Cts, 86 PD5/FsmcNwe/Usart2Tx, 87 PD6/FsmcNwait/Usart2Rx, 88 PD7/Usart2Ck/FsmcNe1/FsmcNe2
part E pins: 1 PE2/Traceclk/FsmcA23/EthMiiTxd3, 2 PE3/Traced0/FsmcA19, 3 PE4/Traced2/FsmcA20/DcmiD4, 4 PE5/Traced2/FsmcA21/Tim9Ch1/DcmiD6, 5 PE6/Traced3/FsmcA22/Tim9Ch2/DcmiD7, 38 PE7/FsmcD4/Tim1Etr, 39 PE8/FsmcD5/Tim1Ch1n, 40 PE9/FsmcD6/Tim1Ch1, 41 PE10/FsmcD7/Tim1Ch2n, 42 PE11/FsmcD8/Tim1Ch2, 43 PE12/FsmcD9/Tim1Ch3n, 44 PE13/FsmcD10/Tim1Ch3, 45 PE14/FsmcD11/Tim1Ch4, 46 PE15/FsmcD12/Tim1Bkin, 97 PE0/Tim4Etr/FsmcNbl0/DcmiD2, 98 PE1/FsmcNbl1/DcmiD3
part F pins: 6 Vbat, 10 VSS, 11 VDD, 12 PH0/OSCIN, 13 PH1/OSCOUT, 14 NRST, 19 VDD, 20 VSSA, 21 VREF+, 22 VDDA, 27 VSS, 28 VDD, 49 VCAP_1, 50 VDD, 73 VCAP_2, 74 VSS, 75 VDD, 94 BOOT0/VPP, 99 VSS, 100 VDD
part A text: Port A
part B text: Port B
part C text: Port C
part D text: Port D
part E text: Port E
part F text: Power

## STM32F446VET6
designator U?
Value: STM32F446VET6
part A pins: 23 PA0/T2CH1/T2ETR/T5CH1/T8ETR/US2CTS/U4TX/AD123I0/WKUP0/TAMP2, 24 PA1/T2CH2/T5CH2/US2RTS/U4RX/QSPBK1IO3/SAI2MCLKB/AD123I1, 25 PA2/T2CH3/T5CH3/T9CH1/US2TX/SAI2SCKB/AD123I2, 26 PA3/T2CH4/T5CH4/T9CH2/SAI1FSA/US2RX/OTGHSULPID0/AD123I3, 29 PA4/SP1NSS/IS1WS/SP3NSS/IS3WS/US2CK/OTGHSSOF/DCMIHSYNC/AD12I4/DA1, 30 PA5/T2CH1/T2ETR/T8CH1N/SP1SCK/IS1CK/OTGHSULPICK/AD12I5/DA2, 31 PA6/T1BKIN/T3CH1/T8BKIN/SP1MISO/IS2MCK/T13CH1/DCMIPIXCLK/AD12I6, 32 PA7/T1CH1N/T3CH2/T8CH1N/SP1MOSI/IS1SD/T14CH1/FMCSDNWE/AD12I7, 67 PA8/MCO1/T1CH1/IC3SCL/US1CK/OTGFSSOF, 68 PA9/T1CH2/IC3SMBA/SP2SCK/IS2CK/SAI1SDB/US1TX/DCMID0/OTGFSVBUS, 69 PA10/T1CH3/US1RX/OTGFSID/DCMID1, 70 PA11/T1CH4/US1CTS/CAN1RX/OTGFSDM, 71 PA12/T1ETR/US1RTS/SAI2FSB/CAN1TX/OTGFSDP, 72 JTMS-SWDIO/PA13, 76 JTCK-SWCLK/PA14, 77 PA15/JTDI/T2CH1/T2ETR/HDMICEC/SP1NSS/IS1WS/SP3NSS/IS2WS/U4RTS
part B pins: 35 PB0/T1CH2N/T3CH3/T8CH2N/SP3MOSI/IS3SD/U4CTS/OTGHSULPID1/SDIOD1/AD12I8, 36 PB1/T1CH3N/T3CH4/T8CH3N/OTGHSULPID2/SDIOD2/AD12I9, 37 PB2/BOOT1/T2CH4/SAI1SDA/SP3MOSI/IS3SD/QSPCLK/OTGHSULPID4/SDIOCK, 47 PB10/T2CH3/IC2SCL/SP2SCK/IS2CK/SAI1SCKA/US3TX/OTGHSULPID3, 51 PB12/T1BKIN/IC2SMBA/SP2NSS/IS2WS/SAI1SCKB/US3CK/CAN2RX/OTGHSULPID5/OTGHSID, 52 PB13/T1CH1N/SP2SCK/IS2CK/US3CTS/CAN2TX/OTGHSULPID6, 53 PB14/T1CH2N/T8CH2N/SP2MISO/US3RTS/T12CH1/OTGHSDM, 54 PB15/RTCREFIN/T1CH3N/T8CH3N/SP2MOSI/IS2SD/T12CH2/OTGHSDP, 89 PB3/JTDO/TRACESWO/T2CH2/IC2SDA/SP1SCK/IS1CK/SP3SCK/IS3CK, 90 PB4/NJRST/T3CH1/IC3SDA/SP1MISO/SP3MISO/SP2NSS/IS2WS, 91 PB5/T3CH2/IC1SMBA/SP1MOSI/IS1SD/SP2MOSI/IS3SD/CAN2RX/OTGHSULPID7/FMCSDCKE1/DCMID10, 92 PB6/T4CH1/HDMICEC/IC1SCL/US1TX/CAN2TX/QSPBK1NCS/FMCSDNE1/DCMID5, 93 PB7/T4CH2/IC1SDA/US1RX/SPDIFRXIN0/FMCNL/DCMIVSYNC, 95 PB8/T2CH1/T2ETR/T4CH3/T10CH1/IC1SCL/CAN1RX/SDIOD4/DCMID6, 96 PB9/T2CH2/T4CH4/T11CH1/IC1SDA/SP2NSS/IS2WS/SAI1FSB/CAN1TX/SDIOD5/DCMID7
part C pins: 7 PC13/TAMP_1/WKUP1, 8 PC14/OSC32IN, 9 PC15/OSC32OUT, 15 PC0/SAI1MCLKB/OTGHSULPISTP/FMCSDNWE/AD123I10, 16 PC1/SP3MOSI/IS3SD/SAI1SDA/SP2MOSI/IS2SD/AD123I11, 17 PC2/SP2MISO/OTGHSULPIDIR/FMCSDNE0/AD123I12, 18 PC3/SP2MOSI/IS2SD/OTGHSULPINXT/FMCSDCKE0/AD123I13, 33 PC4/IS1MCK/SPDIFRXIN2/FMCSDNE0/AD12I14, 34 PC5/US3RX/SPDIFRXIN3/FMCSDCKE0/AD12IN15, 63 PC6/T3CH1/T8CH1/FMPI2C1SCL/IS2MCK/US6TX/SDIOD6/DCMID0, 64 PC7/T3CH2/T8CH2/FMPI2C1SDA/SP2SCK/IS2CK/IS3MCK/SPDIFRXIN1/US6RX/SDIOD7/DCMID1, 65 PC8/TRACED0/T3CH3/T8CH3/U5RTS/US6CK/SDIOD0/DCMID2, 66 PC9/MCO2/T3CH4/T8/CH4/IC3SDA/ISCKIN/U5CTS/QSPBK1IO0/SDIOD1/DCMID3, 78 PC10/SP3SCK/IS3CK/US3TX/U4TX/QSPBK1IO1/SDIOD2/DCMID8, 79 PC11/SP3MISO/US3RX/U4RX/QSPIBK2NCS/SDIOD3/DCMID4, 80 PC12/IC2SDA/SP3MOSI/IS3SD/US3CK/U5TX/SDIO3CK/DCMID9
part D pins: 55 PD8/US3TX/SPDIFRXIN1/FMCD13, 56 PD9/US3TX/FMCD14, 57 PD10/US3CK/FMCD15, 58 PD11/FMPI2C1SMBA/US3CTS/QSPBK1IO0/SAI2SDA/FMCA16, 59 PD12/T4CH1/FMPI2CSCL/US3RTS/QSPBK1IO1/SAI2FS/FMCA17, 60 PD13/T4CH2/FMPI2C1SDA/QSPBK1IO3/SAI2SCK/FMCA18, 61 PD14/T4CH3/FMPI2C1SCL/SAI2SCK/FMCD0, 62 PD15/T3CH4/FMPI2C1SDA/FMCD1, 81 PD0/SP4MISO/SP3MOSI/IS3SD/CAN1RX/FMCD2, 82 PD1/SP2NSS/IS2WS/CAN1TX/FMCD3, 83 PD2/T3ETR/U5RX/SDIOCMD/DCMID11, 84 PD3/TRACED1/SP2SCK/IS2CK/US2CTS/QSPCLK/FMCCLK/DCMID5, 85 PD4/US2RTS/FMCNOE, 86 PD5/US2TX/FMCNWE, 87 PD6/SP3MOSI/IS3SD/SAI1SDA/US2RX/FMCNWAIT/DCMID10, 88 PD7/US2CK/SPDIFRXIN0/FMCNE1
part E pins: 1 PE2/TRACECLK/SP4SCK/SAI1MCLKA/QSPBK1IO2/FMCA23, 2 PE3/TRACED0/SAI1SDB/FMCA19, 3 PE4/TRACED1/SP4NSS/SAI1FSA/FMCA20/DCMID4, 4 PE5/TRACED2/T9CH1/SP4MISO/SAI1SCKA/FMCA21/DCMID6, 5 PE6/TRACED3/T9CH2/SP4MOSI/SAI1SDA/FMCA22/DCMID7, 38 PE7/T1ETR/U5RX/QSPBK2IO0/FMCD4, 39 PE8/T1CH1N/U5TX/QSPBK2IO1/FMCD5, 40 PE9/T1CH1/QSPBK2IO2/FMCD6, 41 PE10/T1CH2N/QSPBK2IO3/FMCD7, 42 PE11/T1CH2/SP4NSS/SAI2SDB/FMCD8, 43 PE12/T1CH3N/SP4SCK/SAI2SCKB/FMCD9, 44 PE13/T1CH3/SP4MISO/SAI2FSB/FMCD10, 45 PE14/T1CH4/SP4MOSI/SAI2MCLKB/FMCD11, 46 PE15/T1BKIN/FMCD12, 97 PE0/T4ETR/SAI2MCLKA/FMCNBL0/DCMID2, 98 PE1/FMCNBL1/DCMID3
part F pins: 6 Vbat, 10 VSS, 11 VDD, 12 OSC_IN/PH0, 13 OSC_OUT/PH1, 14 NRST, 19 VDD, 20 VSSA, 21 VREF+, 22 VDDA, 27 VSS, 28 VDD, 48 VCAP1, 49 VSS, 50 VDD, 73 VCAP2, 74 VSS, 75 VDD, 94 BOOT0, 99 VSS, 100 VDD
part A text: Port A
part B text: Port B
part C text: Port C
part D text: Port D
part E text: Port E
part F text: Power

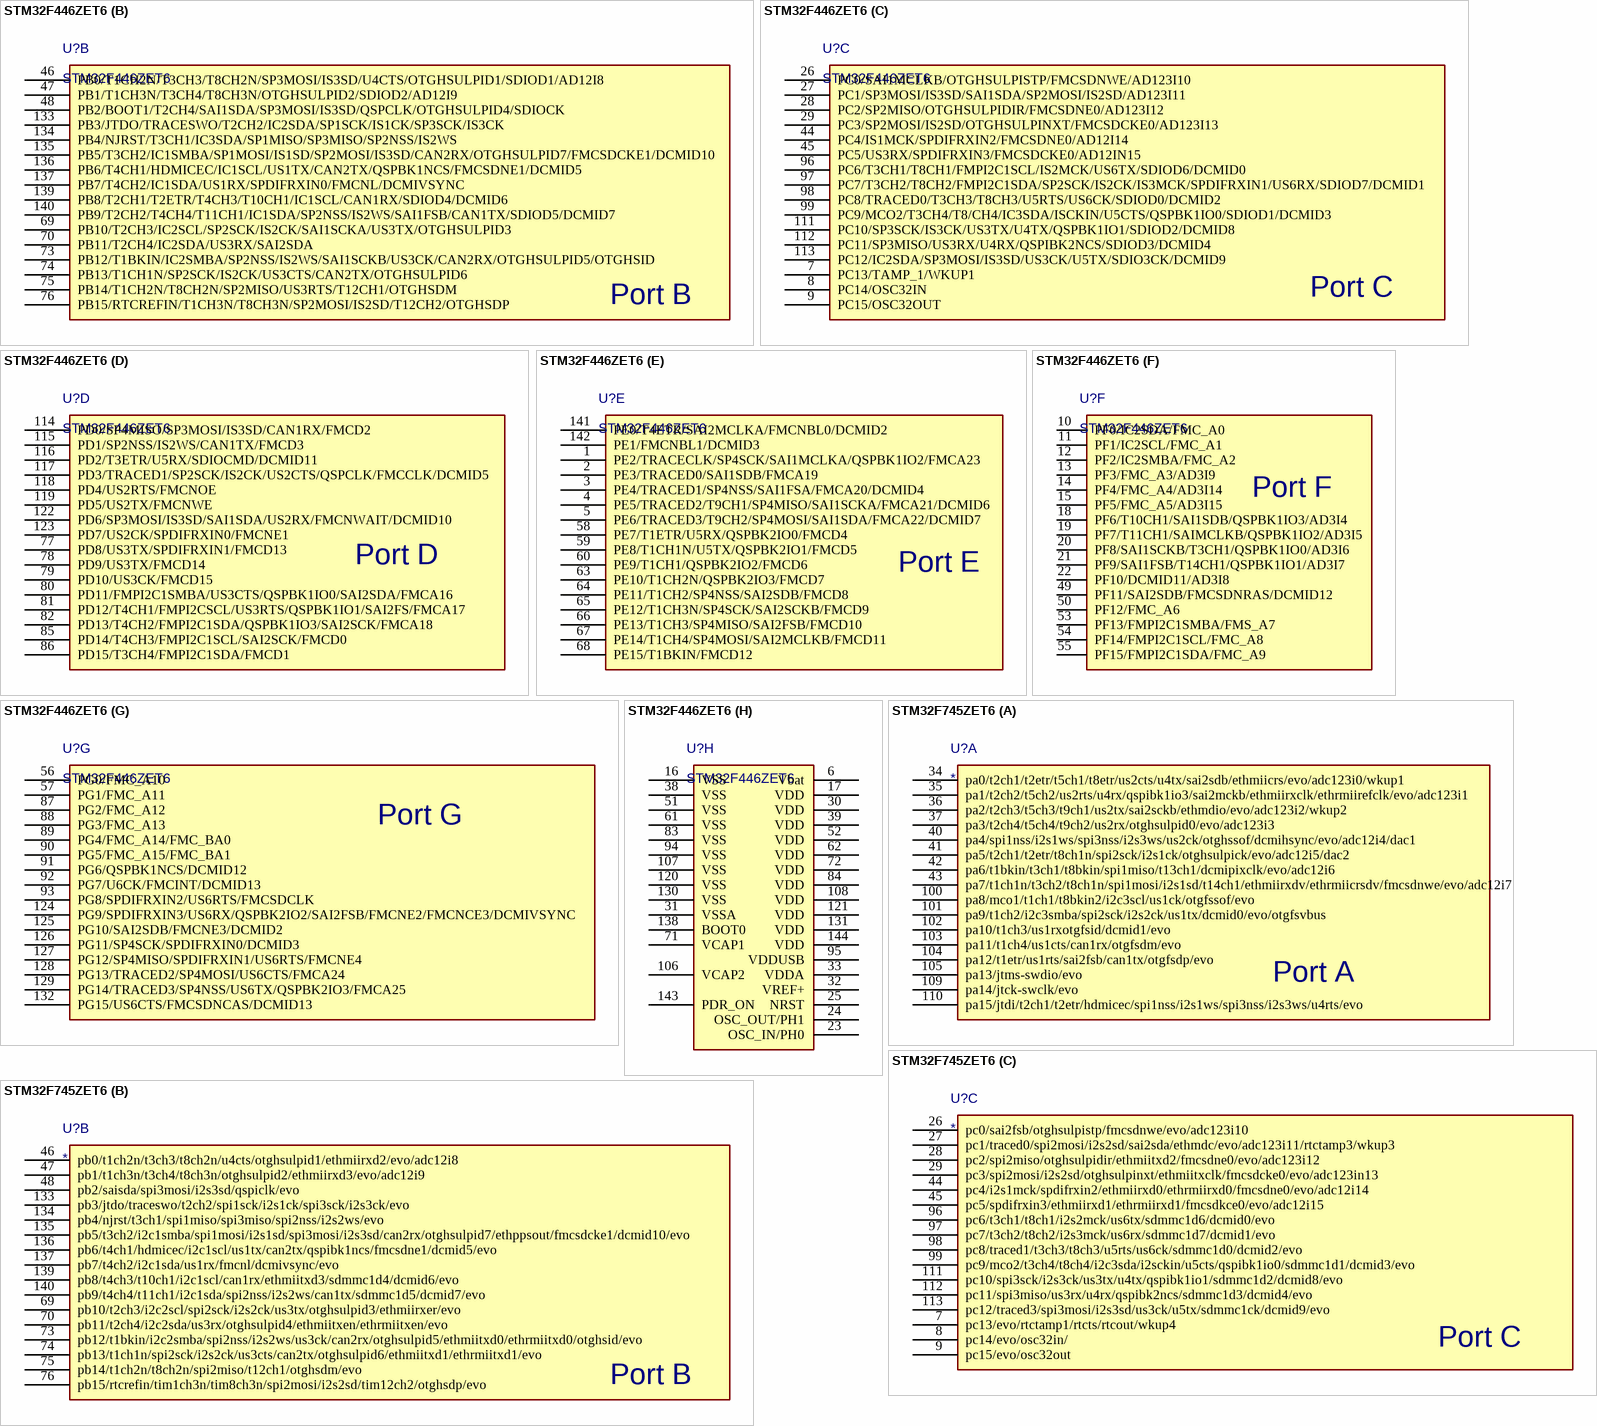
[diagram p14: symbols STM32F446ZET6 to STM32F745ZET6]

## STM32F446ZET6
designator U?
Value: STM32F446ZET6
part A pins: 34 PA0/T2CH1/T2ETR/T5CH1/T8ETR/US2CTS/U4TX/AD123I0/WKUP0/TAMP2, 35 PA1/T2CH2/T5CH2/US2RTS/U4RX/QSPBK1IO3/SAI2MCLKB/AD123I1, 36 PA2/T2CH3/T5CH3/T9CH1/US2TX/SAI2SCKB/AD123I2, 37 PA3/T2CH4/T5CH4/T9CH2/SAI1FSA/US2RX/OTGHSULPID0/AD123I3, 40 PA4/SP1NSS/IS1WS/SP3NSS/IS3WS/US2CK/OTGHSSOF/DCMIHSYNC/AD12I4/DA1, 41 PA5/T2CH1/T2ETR/T8CH1N/SP1SCK/IS1CK/OTGHSULPICK/AD12I5/DA2, 42 PA6/T1BKIN/T3CH1/T8BKIN/SP1MISO/IS2MCK/T13CH1/DCMIPIXCLK/AD12I6, 43 PA7/T1CH1N/T3CH2/T8CH1N/SP1MOSI/IS1SD/T14CH1/FMCSDNWE/AD12I7, 100 PA8/MCO1/T1CH1/IC3SCL/US1CK/OTGFSSOF, 101 PA9/T1CH2/IC3SMBA/SP2SCK/IS2CK/SAI1SDB/US1TX/DCMID0/OTGFSVBUS, 102 PA10/T1CH3/US1RX/OTGFSID/DCMID1, 103 PA11/T1CH4/US1CTS/CAN1RX/OTGFSDM, 104 PA12/T1ETR/US1RTS/SAI2FSB/CAN1TX/OTGFSDP, 105 JTMS-SWDIO/PA13, 109 JTCK-SWCLK/PA14, 110 PA15/JTDI/T2CH1/T2ETR/HDMICEC/SP1NSS/IS1WS/SP3NSS/IS2WS/U4RTS
part B pins: 46 PB0/T1CH2N/T3CH3/T8CH2N/SP3MOSI/IS3SD/U4CTS/OTGHSULPID1/SDIOD1/AD12I8, 47 PB1/T1CH3N/T3CH4/T8CH3N/OTGHSULPID2/SDIOD2/AD12I9, 48 PB2/BOOT1/T2CH4/SAI1SDA/SP3MOSI/IS3SD/QSPCLK/OTGHSULPID4/SDIOCK, 69 PB10/T2CH3/IC2SCL/SP2SCK/IS2CK/SAI1SCKA/US3TX/OTGHSULPID3, 70 PB11/T2CH4/IC2SDA/US3RX/SAI2SDA, 73 PB12/T1BKIN/IC2SMBA/SP2NSS/IS2WS/SAI1SCKB/US3CK/CAN2RX/OTGHSULPID5/OTGHSID, 74 PB13/T1CH1N/SP2SCK/IS2CK/US3CTS/CAN2TX/OTGHSULPID6, 75 PB14/T1CH2N/T8CH2N/SP2MISO/US3RTS/T12CH1/OTGHSDM, 76 PB15/RTCREFIN/T1CH3N/T8CH3N/SP2MOSI/IS2SD/T12CH2/OTGHSDP, 133 PB3/JTDO/TRACESWO/T2CH2/IC2SDA/SP1SCK/IS1CK/SP3SCK/IS3CK, 134 PB4/NJRST/T3CH1/IC3SDA/SP1MISO/SP3MISO/SP2NSS/IS2WS, 135 PB5/T3CH2/IC1SMBA/SP1MOSI/IS1SD/SP2MOSI/IS3SD/CAN2RX/OTGHSULPID7/FMCSDCKE1/DCMID10, 136 PB6/T4CH1/HDMICEC/IC1SCL/US1TX/CAN2TX/QSPBK1NCS/FMCSDNE1/DCMID5, 137 PB7/T4CH2/IC1SDA/US1RX/SPDIFRXIN0/FMCNL/DCMIVSYNC, 139 PB8/T2CH1/T2ETR/T4CH3/T10CH1/IC1SCL/CAN1RX/SDIOD4/DCMID6, 140 PB9/T2CH2/T4CH4/T11CH1/IC1SDA/SP2NSS/IS2WS/SAI1FSB/CAN1TX/SDIOD5/DCMID7
part C pins: 7 PC13/TAMP_1/WKUP1, 8 PC14/OSC32IN, 9 PC15/OSC32OUT, 26 PC0/SAI1MCLKB/OTGHSULPISTP/FMCSDNWE/AD123I10, 27 PC1/SP3MOSI/IS3SD/SAI1SDA/SP2MOSI/IS2SD/AD123I11, 28 PC2/SP2MISO/OTGHSULPIDIR/FMCSDNE0/AD123I12, 29 PC3/SP2MOSI/IS2SD/OTGHSULPINXT/FMCSDCKE0/AD123I13, 44 PC4/IS1MCK/SPDIFRXIN2/FMCSDNE0/AD12I14, 45 PC5/US3RX/SPDIFRXIN3/FMCSDCKE0/AD12IN15, 96 PC6/T3CH1/T8CH1/FMPI2C1SCL/IS2MCK/US6TX/SDIOD6/DCMID0, 97 PC7/T3CH2/T8CH2/FMPI2C1SDA/SP2SCK/IS2CK/IS3MCK/SPDIFRXIN1/US6RX/SDIOD7/DCMID1, 98 PC8/TRACED0/T3CH3/T8CH3/U5RTS/US6CK/SDIOD0/DCMID2, 99 PC9/MCO2/T3CH4/T8/CH4/IC3SDA/ISCKIN/U5CTS/QSPBK1IO0/SDIOD1/DCMID3, 111 PC10/SP3SCK/IS3CK/US3TX/U4TX/QSPBK1IO1/SDIOD2/DCMID8, 112 PC11/SP3MISO/US3RX/U4RX/QSPIBK2NCS/SDIOD3/DCMID4, 113 PC12/IC2SDA/SP3MOSI/IS3SD/US3CK/U5TX/SDIO3CK/DCMID9
part D pins: 77 PD8/US3TX/SPDIFRXIN1/FMCD13, 78 PD9/US3TX/FMCD14, 79 PD10/US3CK/FMCD15, 80 PD11/FMPI2C1SMBA/US3CTS/QSPBK1IO0/SAI2SDA/FMCA16, 81 PD12/T4CH1/FMPI2CSCL/US3RTS/QSPBK1IO1/SAI2FS/FMCA17, 82 PD13/T4CH2/FMPI2C1SDA/QSPBK1IO3/SAI2SCK/FMCA18, 85 PD14/T4CH3/FMPI2C1SCL/SAI2SCK/FMCD0, 86 PD15/T3CH4/FMPI2C1SDA/FMCD1, 114 PD0/SP4MISO/SP3MOSI/IS3SD/CAN1RX/FMCD2, 115 PD1/SP2NSS/IS2WS/CAN1TX/FMCD3, 116 PD2/T3ETR/U5RX/SDIOCMD/DCMID11, 117 PD3/TRACED1/SP2SCK/IS2CK/US2CTS/QSPCLK/FMCCLK/DCMID5, 118 PD4/US2RTS/FMCNOE, 119 PD5/US2TX/FMCNWE, 122 PD6/SP3MOSI/IS3SD/SAI1SDA/US2RX/FMCNWAIT/DCMID10, 123 PD7/US2CK/SPDIFRXIN0/FMCNE1
part E pins: 1 PE2/TRACECLK/SP4SCK/SAI1MCLKA/QSPBK1IO2/FMCA23, 2 PE3/TRACED0/SAI1SDB/FMCA19, 3 PE4/TRACED1/SP4NSS/SAI1FSA/FMCA20/DCMID4, 4 PE5/TRACED2/T9CH1/SP4MISO/SAI1SCKA/FMCA21/DCMID6, 5 PE6/TRACED3/T9CH2/SP4MOSI/SAI1SDA/FMCA22/DCMID7, 58 PE7/T1ETR/U5RX/QSPBK2IO0/FMCD4, 59 PE8/T1CH1N/U5TX/QSPBK2IO1/FMCD5, 60 PE9/T1CH1/QSPBK2IO2/FMCD6, 63 PE10/T1CH2N/QSPBK2IO3/FMCD7, 64 PE11/T1CH2/SP4NSS/SAI2SDB/FMCD8, 65 PE12/T1CH3N/SP4SCK/SAI2SCKB/FMCD9, 66 PE13/T1CH3/SP4MISO/SAI2FSB/FMCD10, 67 PE14/T1CH4/SP4MOSI/SAI2MCLKB/FMCD11, 68 PE15/T1BKIN/FMCD12, 141 PE0/T4ETR/SAI2MCLKA/FMCNBL0/DCMID2, 142 PE1/FMCNBL1/DCMID3
part F pins: 10 PF0/IC2SDA/FMC_A0, 11 PF1/IC2SCL/FMC_A1, 12 PF2/IC2SMBA/FMC_A2, 13 PF3/FMC_A3/AD3I9, 14 PF4/FMC_A4/AD3I14, 15 PF5/FMC_A5/AD3I15, 18 PF6/T10CH1/SAI1SDB/QSPBK1IO3/AD3I4, 19 PF7/T11CH1/SAIMCLKB/QSPBK1IO2/AD3I5, 20 PF8/SAI1SCKB/T3CH1/QSPBK1IO0/AD3I6, 21 PF9/SAI1FSB/T14CH1/QSPBK1IO1/AD3I7, 22 PF10/DCMID11/AD3I8, 49 PF11/SAI2SDB/FMCSDNRAS/DCMID12, 50 PF12/FMC_A6, 53 PF13/FMPI2C1SMBA/FMS_A7, 54 PF14/FMPI2C1SCL/FMC_A8, 55 PF15/FMPI2C1SDA/FMC_A9
part G pins: 56 PG0/FMC_A10, 57 PG1/FMC_A11, 87 PG2/FMC_A12, 88 PG3/FMC_A13, 89 PG4/FMC_A14/FMC_BA0, 90 PG5/FMC_A15/FMC_BA1, 91 PG6/QSPBK1NCS/DCMID12, 92 PG7/U6CK/FMCINT/DCMID13, 93 PG8/SPDIFRXIN2/US6RTS/FMCSDCLK, 124 PG9/SPDIFRXIN3/US6RX/QSPBK2IO2/SAI2FSB/FMCNE2/FMCNCE3/DCMIVSYNC, 125 PG10/SAI2SDB/FMCNE3/DCMID2, 126 PG11/SP4SCK/SPDIFRXIN0/DCMID3, 127 PG12/SP4MISO/SPDIFRXIN1/US6RTS/FMCNE4, 128 PG13/TRACED2/SP4MOSI/US6CTS/FMCA24, 129 PG14/TRACED3/SP4NSS/US6TX/QSPBK2IO3/FMCA25, 132 PG15/US6CTS/FMCSDNCAS/DCMID13
part H pins: 6 Vbat, 16 VSS, 17 VDD, 23 OSC_IN/PH0, 24 OSC_OUT/PH1, 25 NRST, 30 VDD, 31 VSSA, 32 VREF+, 33 VDDA, 38 VSS, 39 VDD, 51 VSS, 52 VDD, 61 VSS, 62 VDD, 71 VCAP1, 72 VDD, 83 VSS, 84 VDD, 94 VSS, 95 VDDUSB, 106 VCAP2, 107 VSS, 108 VDD, 120 VSS, 121 VDD, 130 VSS, 131 VDD, 138 BOOT0, 143 PDR_ON, 144 VDD
part A text: Port A
part B text: Port B
part C text: Port C
part D text: Port D
part E text: Port E
part F text: Port F
part G text: Port G

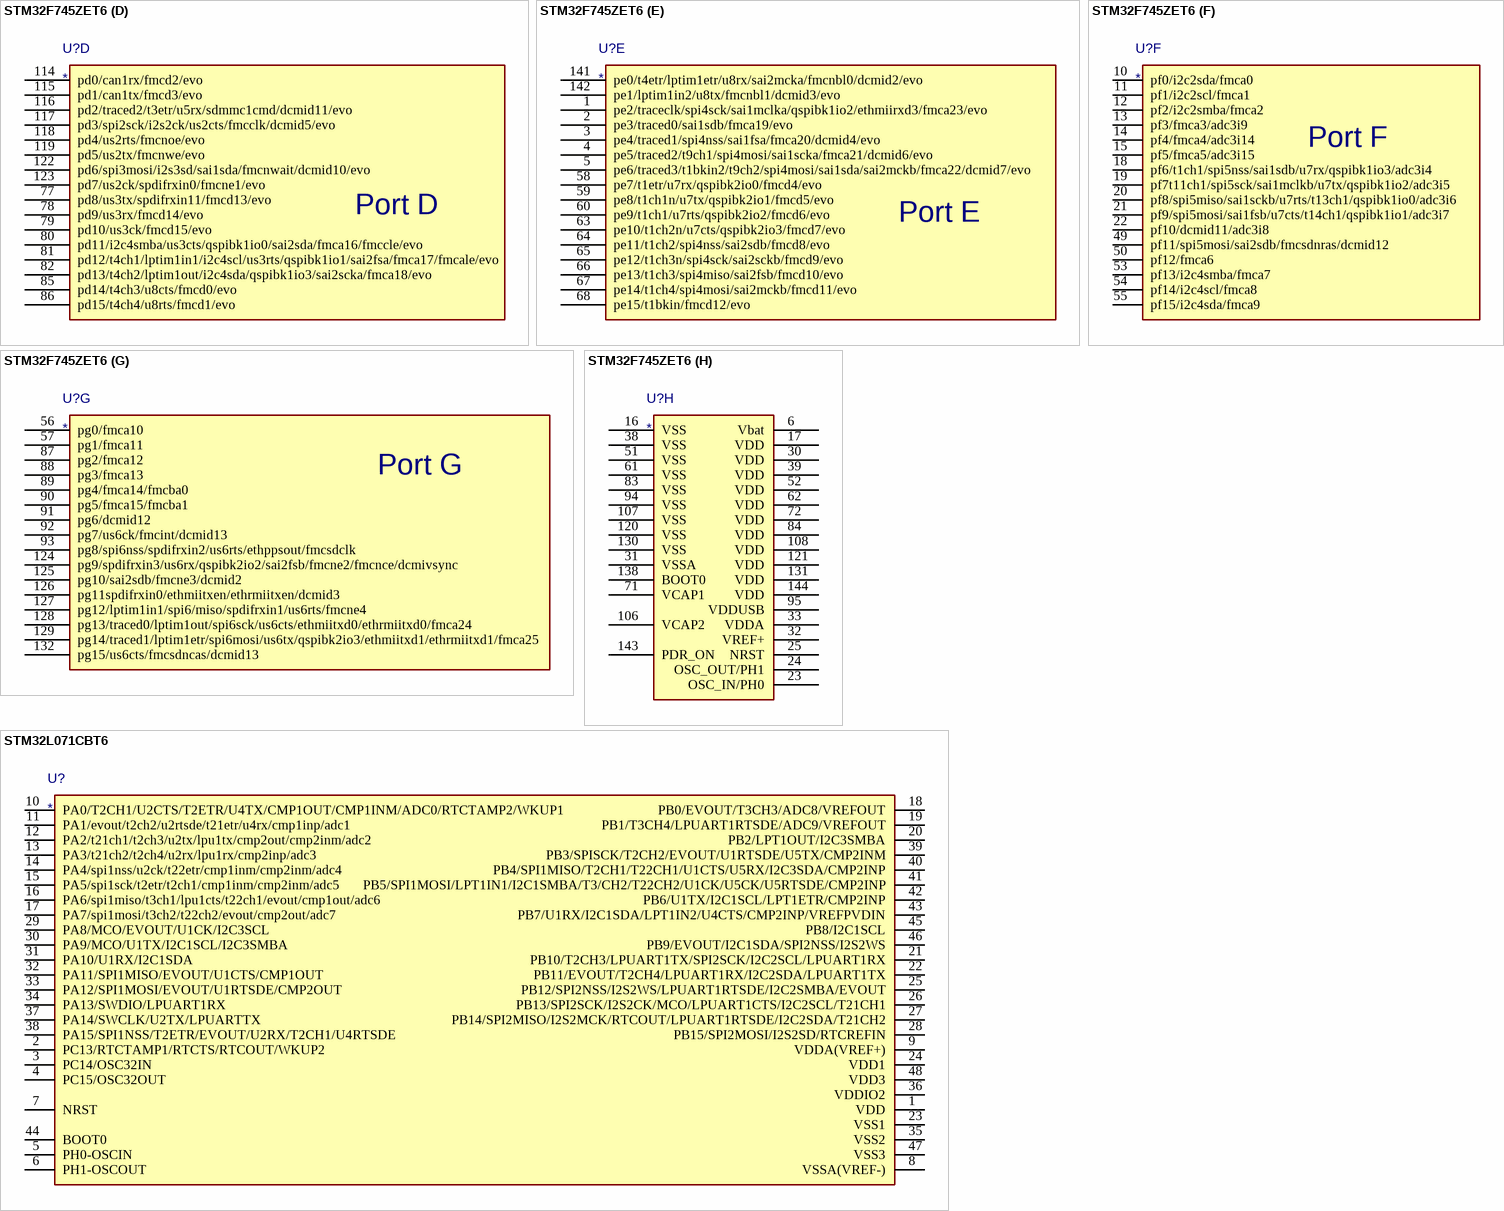
[diagram p15: symbols STM32F745ZET6 to STM32L071CBT6]

## STM32F745ZET6
designator U?
Value: *
part A pins: 34 pa0/t2ch1/t2etr/t5ch1/t8etr/us2cts/u4tx/sai2sdb/ethmiicrs/evo/adc123i0/wkup1, 35 pa1/t2ch2/t5ch2/us2rts/u4rx/qspibk1io3/sai2mckb/ethmiirxclk/ethrmiirefclk/evo/adc123i1, 36 pa2/t2ch3/t5ch3/t9ch1/us2tx/sai2sckb/ethmdio/evo/adc123i2/wkup2, 37 pa3/t2ch4/t5ch4/t9ch2/us2rx/otghsulpid0/evo/adc123i3, 40 pa4/spi1nss/i2s1ws/spi3nss/i2s3ws/us2ck/otghssof/dcmihsync/evo/adc12i4/dac1, 41 pa5/t2ch1/t2etr/t8ch1n/spi2sck/i2s1ck/otghsulpick/evo/adc12i5/dac2, 42 pa6/t1bkin/t3ch1/t8bkin/spi1miso/t13ch1/dcmipixclk/evo/adc12i6, 43 pa7/t1ch1n/t3ch2/t8ch1n/spi1mosi/i2s1sd/t14ch1/ethmiirxdv/ethrmiicrsdv/fmcsdnwe/evo/adc12i7, 100 pa8/mco1/t1ch1/t8bkin2/i2c3scl/us1ck/otgfssof/evo, 101 pa9/t1ch2/i2c3smba/spi2sck/i2s2ck/us1tx/dcmid0/evo/otgfsvbus, 102 pa10/t1ch3/us1rxotgfsid/dcmid1/evo, 103 pa11/t1ch4/us1cts/can1rx/otgfsdm/evo, 104 pa12/t1etr/us1rts/sai2fsb/can1tx/otgfsdp/evo, 105 pa13/jtms-swdio/evo, 109 pa14/jtck-swclk/evo, 110 pa15/jtdi/t2ch1/t2etr/hdmicec/spi1nss/i2s1ws/spi3nss/i2s3ws/u4rts/evo
part B pins: 46 pb0/t1ch2n/t3ch3/t8ch2n/u4cts/otghsulpid1/ethmiirxd2/evo/adc12i8, 47 pb1/t1ch3n/t3ch4/t8ch3n/otghsulpid2/ethmiirxd3/evo/adc12i9, 48 pb2/saisda/spi3mosi/i2s3sd/qspiclk/evo, 69 pb10/t2ch3/i2c2scl/spi2sck/i2s2ck/us3tx/otghsulpid3/ethmiirxer/evo, 70 pb11/t2ch4/i2c2sda/us3rx/otghsulpid4/ethmiitxen/ethrmiitxen/evo, 73 pb12/t1bkin/i2c2smba/spi2nss/i2s2ws/us3ck/can2rx/otghsulpid5/ethmiitxd0/ethrmiitxd0/otghsid/evo, 74 pb13/t1ch1n/spi2sck/i2s2ck/us3cts/can2tx/otghsulpid6/ethmiitxd1/ethrmiitxd1/evo, 75 pb14/t1ch2n/t8ch2n/spi2miso/t12ch1/otghsdm/evo, 76 pb15/rtcrefin/tim1ch3n/tim8ch3n/spi2mosi/i2s2sd/tim12ch2/otghsdp/evo, 133 pb3/jtdo/traceswo/t2ch2/spi1sck/i2s1ck/spi3sck/i2s3ck/evo, 134 pb4/njrst/t3ch1/spi1miso/spi3miso/spi2nss/i2s2ws/evo, 135 pb5/t3ch2/i2c1smba/spi1mosi/i2s1sd/spi3mosi/i2s3sd/can2rx/otghsulpid7/ethppsout/fmcsdcke1/dcmid10/evo, 136 pb6/t4ch1/hdmicec/i2c1scl/us1tx/can2tx/qspibk1ncs/fmcsdne1/dcmid5/evo, 137 pb7/t4ch2/i2c1sda/us1rx/fmcnl/dcmivsync/evo, 139 pb8/t4ch3/t10ch1/i2c1scl/can1rx/ethmiitxd3/sdmmc1d4/dcmid6/evo, 140 pb9/t4ch4/t11ch1/i2c1sda/spi2nss/i2s2ws/can1tx/sdmmc1d5/dcmid7/evo
part C pins: 7 pc13/evo/rtctamp1/rtcts/rtcout/wkup4, 8 pc14/evo/osc32in/, 9 pc15/evo/osc32out, 26 pc0/sai2fsb/otghsulpistp/fmcsdnwe/evo/adc123i10, 27 pc1/traced0/spi2mosi/i2s2sd/sai2sda/ethmdc/evo/adc123i11/rtctamp3/wkup3, 28 pc2/spi2miso/otghsulpidir/ethmiitxd2/fmcsdne0/evo/adc123i12, 29 pc3/spi2mosi/i2s2sd/otghsulpinxt/ethmiitxclk/fmcsdcke0/evo/adc123in13, 44 pc4/i2s1mck/spdifrxin2/ethmiirxd0/ethrmiirxd0/fmcsdne0/evo/adc12i14, 45 pc5/spdifrxin3/ethmiirxd1/ethrmiirxd1/fmcsdkce0/evo/adc12i15, 96 pc6/t3ch1/t8ch1/i2s2mck/us6tx/sdmmc1d6/dcmid0/evo, 97 pc7/t3ch2/t8ch2/i2s3mck/us6rx/sdmmc1d7/dcmid1/evo, 98 pc8/traced1/t3ch3/t8ch3/u5rts/us6ck/sdmmc1d0/dcmid2/evo, 99 pc9/mco2/t3ch4/t8ch4/i2c3sda/i2sckin/u5cts/qspibk1io0/sdmmc1d1/dcmid3/evo, 111 pc10/spi3sck/i2s3ck/us3tx/u4tx/qspibk1io1/sdmmc1d2/dcmid8/evo, 112 pc11/spi3miso/us3rx/u4rx/qspibk2ncs/sdmmc1d3/dcmid4/evo, 113 pc12/traced3/spi3mosi/i2s3sd/us3ck/u5tx/sdmmc1ck/dcmid9/evo
part D pins: 77 pd8/us3tx/spdifrxin11/fmcd13/evo, 78 pd9/us3rx/fmcd14/evo, 79 pd10/us3ck/fmcd15/evo, 80 pd11/i2c4smba/us3cts/qspibk1io0/sai2sda/fmca16/fmccle/evo, 81 pd12/t4ch1/lptim1in1/i2c4scl/us3rts/qspibk1io1/sai2fsa/fmca17/fmcale/evo, 82 pd13/t4ch2/lptim1out/i2c4sda/qspibk1io3/sai2scka/fmca18/evo, 85 pd14/t4ch3/u8cts/fmcd0/evo, 86 pd15/t4ch4/u8rts/fmcd1/evo, 114 pd0/can1rx/fmcd2/evo, 115 pd1/can1tx/fmcd3/evo, 116 pd2/traced2/t3etr/u5rx/sdmmc1cmd/dcmid11/evo, 117 pd3/spi2sck/i2s2ck/us2cts/fmcclk/dcmid5/evo, 118 pd4/us2rts/fmcnoe/evo, 119 pd5/us2tx/fmcnwe/evo, 122 pd6/spi3mosi/i2s3sd/sai1sda/fmcnwait/dcmid10/evo, 123 pd7/us2ck/spdifrxin0/fmcne1/evo
part E pins: 1 pe2/traceclk/spi4sck/sai1mclka/qspibk1io2/ethmiirxd3/fmca23/evo, 2 pe3/traced0/sai1sdb/fmca19/evo, 3 pe4/traced1/spi4nss/sai1fsa/fmca20/dcmid4/evo, 4 pe5/traced2/t9ch1/spi4mosi/sai1scka/fmca21/dcmid6/evo, 5 pe6/traced3/t1bkin2/t9ch2/spi4mosi/sai1sda/sai2mckb/fmca22/dcmid7/evo, 58 pe7/t1etr/u7rx/qspibk2io0/fmcd4/evo, 59 pe8/t1ch1n/u7tx/qspibk2io1/fmcd5/evo, 60 pe9/t1ch1/u7rts/qspibk2io2/fmcd6/evo, 63 pe10/t1ch2n/u7cts/qspibk2io3/fmcd7/evo, 64 pe11/t1ch2/spi4nss/sai2sdb/fmcd8/evo, 65 pe12/t1ch3n/spi4sck/sai2sckb/fmcd9/evo, 66 pe13/t1ch3/spi4miso/sai2fsb/fmcd10/evo, 67 pe14/t1ch4/spi4mosi/sai2mckb/fmcd11/evo, 68 pe15/t1bkin/fmcd12/evo, 141 pe0/t4etr/lptim1etr/u8rx/sai2mcka/fmcnbl0/dcmid2/evo, 142 pe1/lptim1in2/u8tx/fmcnbl1/dcmid3/evo
part F pins: 10 pf0/i2c2sda/fmca0, 11 pf1/i2c2scl/fmca1, 12 pf2/i2c2smba/fmca2, 13 pf3/fmca3/adc3i9, 14 pf4/fmca4/adc3i14, 15 pf5/fmca5/adc3i15, 18 pf6/t1ch1/spi5nss/sai1sdb/u7rx/qspibk1io3/adc3i4, 19 pf7t11ch1/spi5sck/sai1mclkb/u7tx/qspibk1io2/adc3i5, 20 pf8/spi5miso/sai1sckb/u7rts/t13ch1/qspibk1io0/adc3i6, 21 pf9/spi5mosi/sai1fsb/u7cts/t14ch1/qspibk1io1/adc3i7, 22 pf10/dcmid11/adc3i8, 49 pf11/spi5mosi/sai2sdb/fmcsdnras/dcmid12, 50 pf12/fmca6, 53 pf13/i2c4smba/fmca7, 54 pf14/i2c4scl/fmca8, 55 pf15/i2c4sda/fmca9
part G pins: 56 pg0/fmca10, 57 pg1/fmca11, 87 pg2/fmca12, 88 pg3/fmca13, 89 pg4/fmca14/fmcba0, 90 pg5/fmca15/fmcba1, 91 pg6/dcmid12, 92 pg7/us6ck/fmcint/dcmid13, 93 pg8/spi6nss/spdifrxin2/us6rts/ethppsout/fmcsdclk, 124 pg9/spdifrxin3/us6rx/qspibk2io2/sai2fsb/fmcne2/fmcnce/dcmivsync, 125 pg10/sai2sdb/fmcne3/dcmid2, 126 pg11spdifrxin0/ethmiitxen/ethrmiitxen/dcmid3, 127 pg12/lptim1in1/spi6/miso/spdifrxin1/us6rts/fmcne4, 128 pg13/traced0/lptim1out/spi6sck/us6cts/ethmiitxd0/ethrmiitxd0/fmca24, 129 pg14/traced1/lptim1etr/spi6mosi/us6tx/qspibk2io3/ethmiitxd1/ethrmiitxd1/fmca25, 132 pg15/us6cts/fmcsdncas/dcmid13
part H pins: 6 Vbat, 16 VSS, 17 VDD, 23 OSC_IN/PH0, 24 OSC_OUT/PH1, 25 NRST, 30 VDD, 31 VSSA, 32 VREF+, 33 VDDA, 38 VSS, 39 VDD, 51 VSS, 52 VDD, 61 VSS, 62 VDD, 71 VCAP1, 72 VDD, 83 VSS, 84 VDD, 94 VSS, 95 VDDUSB, 106 VCAP2, 107 VSS, 108 VDD, 120 VSS, 121 VDD, 130 VSS, 131 VDD, 138 BOOT0, 143 PDR_ON, 144 VDD
part A text: Port A
part B text: Port B
part C text: Port C
part D text: Port D
part E text: Port E
part F text: Port F
part G text: Port G

## STM32L071CBT6
designator U?
Value: *
pins: 1 VDD, 2 PC13/RTCTAMP1/RTCTS/RTCOUT/WKUP2, 3 PC14/OSC32IN, 4 PC15/OSC32OUT, 5 PH0-OSCIN, 6 PH1-OSCOUT, 7 NRST, 8 VSSA(VREF-), 9 VDDA(VREF+), 10 PA0/T2CH1/U2CTS/T2ETR/U4TX/CMP1OUT/CMP1INM/ADC0/RTCTAMP2/WKUP1, 11 PA1/evout/t2ch2/u2rtsde/t21etr/u4rx/cmp1inp/adc1, 12 PA2/t21ch1/t2ch3/u2tx/lpu1tx/cmp2out/cmp2inm/adc2, 13 PA3/t21ch2/t2ch4/u2rx/lpu1rx/cmp2inp/adc3, 14 PA4/spi1nss/u2ck/t22etr/cmp1inm/cmp2inm/adc4, 15 PA5/spi1sck/t2etr/t2ch1/cmp1inm/cmp2inm/adc5, 16 PA6/spi1miso/t3ch1/lpu1cts/t22ch1/evout/cmp1out/adc6, 17 PA7/spi1mosi/t3ch2/t22ch2/evout/cmp2out/adc7, 18 PB0/EVOUT/T3CH3/ADC8/VREFOUT, 19 PB1/T3CH4/LPUART1RTSDE/ADC9/VREFOUT, 20 PB2/LPT1OUT/I2C3SMBA, 21 PB10/T2CH3/LPUART1TX/SPI2SCK/I2C2SCL/LPUART1RX, 22 PB11/EVOUT/T2CH4/LPUART1RX/I2C2SDA/LPUART1TX, 23 VSS1, 24 VDD1, 25 PB12/SPI2NSS/I2S2WS/LPUART1RTSDE/I2C2SMBA/EVOUT, 26 PB13/SPI2SCK/I2S2CK/MCO/LPUART1CTS/I2C2SCL/T21CH1, 27 PB14/SPI2MISO/I2S2MCK/RTCOUT/LPUART1RTSDE/I2C2SDA/T21CH2, 28 PB15/SPI2MOSI/I2S2SD/RTCREFIN, 29 PA8/MCO/EVOUT/U1CK/I2C3SCL, 30 PA9/MCO/U1TX/I2C1SCL/I2C3SMBA, 31 PA10/U1RX/I2C1SDA, 32 PA11/SPI1MISO/EVOUT/U1CTS/CMP1OUT, 33 PA12/SPI1MOSI/EVOUT/U1RTSDE/CMP2OUT, 34 PA13/SWDIO/LPUART1RX, 35 VSS2, 36 VDDIO2, 37 PA14/SWCLK/U2TX/LPUARTTX, 38 PA15/SPI1NSS/T2ETR/EVOUT/U2RX/T2CH1/U4RTSDE, 39 PB3/SPISCK/T2CH2/EVOUT/U1RTSDE/U5TX/CMP2INM, 40 PB4/SPI1MISO/T2CH1/T22CH1/U1CTS/U5RX/I2C3SDA/CMP2INP, 41 PB5/SPI1MOSI/LPT1IN1/I2C1SMBA/T3/CH2/T22CH2/U1CK/U5CK/U5RTSDE/CMP2INP, 42 PB6/U1TX/I2C1SCL/LPT1ETR/CMP2INP, 43 PB7/U1RX/I2C1SDA/LPT1IN2/U4CTS/CMP2INP/VREFPVDIN, 44 BOOT0, 45 PB8/I2C1SCL, 46 PB9/EVOUT/I2C1SDA/SPI2NSS/I2S2WS, 47 VSS3, 48 VDD3

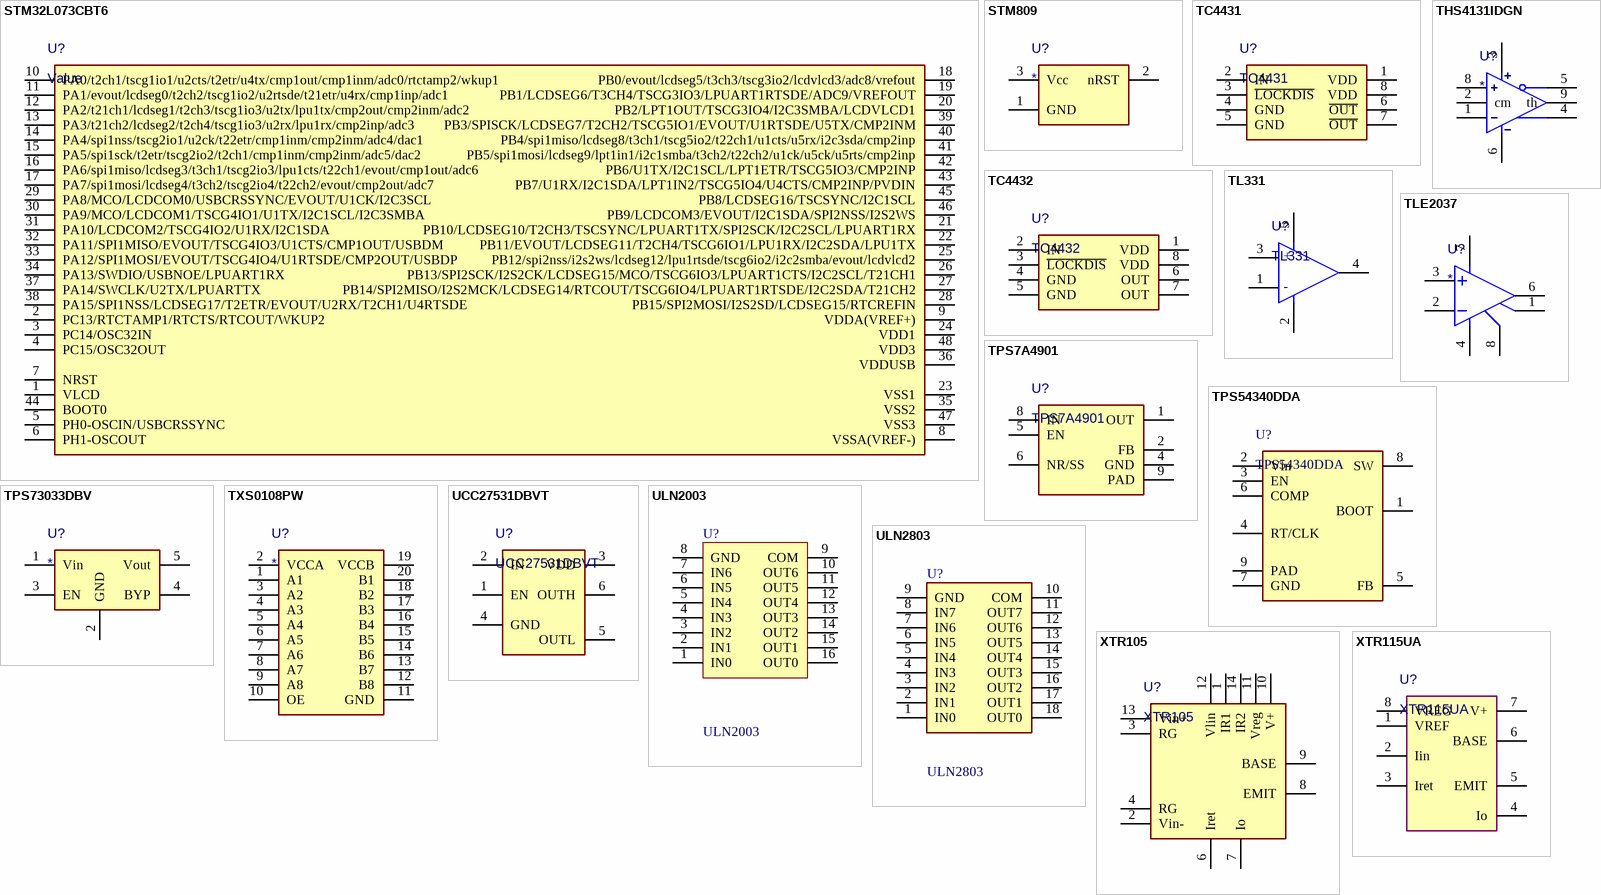
[diagram p16: symbols STM32L073CBT6 to XTR115UA]

## STM32L073CBT6
designator U?, comment Value
Value: Value
pins: 1 VLCD, 2 PC13/RTCTAMP1/RTCTS/RTCOUT/WKUP2, 3 PC14/OSC32IN, 4 PC15/OSC32OUT, 5 PH0-OSCIN/USBCRSSYNC, 6 PH1-OSCOUT, 7 NRST, 8 VSSA(VREF-), 9 VDDA(VREF+), 10 PA0/t2ch1/tscg1io1/u2cts/t2etr/u4tx/cmp1out/cmp1inm/adc0/rtctamp2/wkup1, 11 PA1/evout/lcdseg0/t2ch2/tscg1io2/u2rtsde/t21etr/u4rx/cmp1inp/adc1, 12 PA2/t21ch1/lcdseg1/t2ch3/tscg1io3/u2tx/lpu1tx/cmp2out/cmp2inm/adc2, 13 PA3/t21ch2/lcdseg2/t2ch4/tscg1io3/u2rx/lpu1rx/cmp2inp/adc3, 14 PA4/spi1nss/tscg2io1/u2ck/t22etr/cmp1inm/cmp2inm/adc4/dac1, 15 PA5/spi1sck/t2etr/tscg2io2/t2ch1/cmp1inm/cmp2inm/adc5/dac2, 16 PA6/spi1miso/lcdseg3/t3ch1/tscg2io3/lpu1cts/t22ch1/evout/cmp1out/adc6, 17 PA7/spi1mosi/lcdseg4/t3ch2/tscg2io4/t22ch2/evout/cmp2out/adc7, 18 PB0/evout/lcdseg5/t3ch3/tscg3io2/lcdvlcd3/adc8/vrefout, 19 PB1/LCDSEG6/T3CH4/TSCG3IO3/LPUART1RTSDE/ADC9/VREFOUT, 20 PB2/LPT1OUT/TSCG3IO4/I2C3SMBA/LCDVLCD1, 21 PB10/LCDSEG10/T2CH3/TSCSYNC/LPUART1TX/SPI2SCK/I2C2SCL/LPUART1RX, 22 PB11/EVOUT/LCDSEG11/T2CH4/TSCG6IO1/LPU1RX/I2C2SDA/LPU1TX, 23 VSS1, 24 VDD1, 25 PB12/spi2nss/i2s2ws/lcdseg12/lpu1rtsde/tscg6io2/i2c2smba/evout/lcdvlcd2, 26 PB13/SPI2SCK/I2S2CK/LCDSEG15/MCO/TSCG6IO3/LPUART1CTS/I2C2SCL/T21CH1, 27 PB14/SPI2MISO/I2S2MCK/LCDSEG14/RTCOUT/TSCG6IO4/LPUART1RTSDE/I2C2SDA/T21CH2, 28 PB15/SPI2MOSI/I2S2SD/LCDSEG15/RTCREFIN, 29 PA8/MCO/LCDCOM0/USBCRSSYNC/EVOUT/U1CK/I2C3SCL, 30 PA9/MCO/LCDCOM1/TSCG4IO1/U1TX/I2C1SCL/I2C3SMBA, 31 PA10/LCDCOM2/TSCG4IO2/U1RX/I2C1SDA, 32 PA11/SPI1MISO/EVOUT/TSCG4IO3/U1CTS/CMP1OUT/USBDM, 33 PA12/SPI1MOSI/EVOUT/TSCG4IO4/U1RTSDE/CMP2OUT/USBDP, 34 PA13/SWDIO/USBNOE/LPUART1RX, 35 VSS2, 36 VDDUSB, 37 PA14/SWCLK/U2TX/LPUARTTX, 38 PA15/SPI1NSS/LCDSEG17/T2ETR/EVOUT/U2RX/T2CH1/U4RTSDE, 39 PB3/SPISCK/LCDSEG7/T2CH2/TSCG5IO1/EVOUT/U1RTSDE/U5TX/CMP2INM, 40 PB4/spi1miso/lcdseg8/t3ch1/tscg5io2/t22ch1/u1cts/u5rx/i2c3sda/cmp2inp, 41 PB5/spi1mosi/lcdseg9/lpt1in1/i2c1smba/t3ch2/t22ch2/u1ck/u5ck/u5rts/cmp2inp, 42 PB6/U1TX/I2C1SCL/LPT1ETR/TSCG5IO3/CMP2INP, 43 PB7/U1RX/I2C1SDA/LPT1IN2/TSCG5IO4/U4CTS/CMP2INP/PVDIN, 44 BOOT0, 45 PB8/LCDSEG16/TSCSYNC/I2C1SCL, 46 PB9/LCDCOM3/EVOUT/I2C1SDA/SPI2NSS/I2S2WS, 47 VSS3, 48 VDD3

## STM809
designator U?
Value: *
pins: 1 GND (power), 2 nRST, 3 Vcc (power)

## TC4431
designator U?
Value: TC4431
pins: 1 VDD, 2 IN, 3 ~{LOCKDIS}, 4 GND, 5 GND, 6 ~{OUT}, 7 ~{OUT}, 8 VDD

## TC4432
designator U?
Value: TC4432
pins: 1 VDD, 2 IN, 3 ~{LOCKDIS}, 4 GND, 5 GND, 6 OUT, 7 OUT, 8 VDD

## THS4131IDGN
designator U?
Value: *
pins: 1 MINUS INPUT, 2 cm, 3 PLUS V, 4 OUTPUT, 5 DISABLE, 6 MINUS V, 8 PLUS INPUT, 9 th

## TL331
designator U?
Value: TL331
pins: 1, 2, 3, 4, 5
text: +; -

## TLE2037
designator U?
Value: *
pins: 1 COMPENSATION 1, 2 MINUS, 3 PLUS, 4 MINUS V, 6 OUTPUT, 7 PLUS V, 8 COMPENSATION 2

## TPS7A4901
designator U?
Value: TPS7A4901
pins: 1 OUT, 2 FB, 4 GND, 5 EN, 6 NR/SS, 8 IN, 9 PAD

## TPS54340DDA
designator U?
Value: TPS54340DDA
pins: 1 BOOT, 2 Vin, 3 EN, 4 RT/CLK, 5 FB, 6 COMP, 7 GND, 8 SW, 9 PAD

## TPS73033DBV
designator U?
Value: *
pins: 1 Vin, 2 GND, 3 EN, 4 BYP, 5 Vout

## TXS0108PW
designator U?
Value: *
pins: 1 A1, 2 VCCA, 3 A2, 4 A3, 5 A4, 6 A5, 7 A6, 8 A7, 9 A8, 10 OE, 11 GND, 12 B8, 13 B7, 14 B6, 15 B5, 16 B4, 17 B3, 18 B2, 19 VCCB, 20 B1

## UCC27531DBVT
designator U?
Value: UCC27531DBVT
pins: 1 EN, 2 IN, 3 VDD, 4 GND, 5 OUTL, 6 OUTH

## ULN2003
designator U?
Value: ULN2003
pins: 1 IN0, 2 IN1, 3 IN2, 4 IN3, 5 IN4, 6 IN5, 7 IN6, 8 GND, 9 COM, 10 OUT6, 11 OUT5, 12 OUT4, 13 OUT3, 14 OUT2, 15 OUT1, 16 OUT0

## ULN2803
designator U?
Value: ULN2803
pins: 1 IN0, 2 IN1, 3 IN2, 4 IN3, 5 IN4, 6 IN5, 7 IN6, 8 IN7, 9 GND, 10 COM, 11 OUT7, 12 OUT6, 13 OUT5, 14 OUT4, 15 OUT3, 16 OUT2, 17 OUT1, 18 OUT0

## XTR105
designator U?
Value: XTR105
pins: 1 IR1, 2 Vin-, 3 RG, 4 RG, 6 Iret, 7 Io, 8 EMIT, 9 BASE, 10 V+, 11 Vreg, 12 Vlin, 13 Vin+, 14 IR2

## XTR115UA
designator U?
Value: XTR115UA
pins: 1 VREF, 2 Iin, 3 Iret, 4 Io, 5 EMIT, 6 BASE, 7 V+, 8 VREG